# Altium schematic symbol library TMDX654GPEVM.SCHLIB: 339 symbols (part 2 of 6)
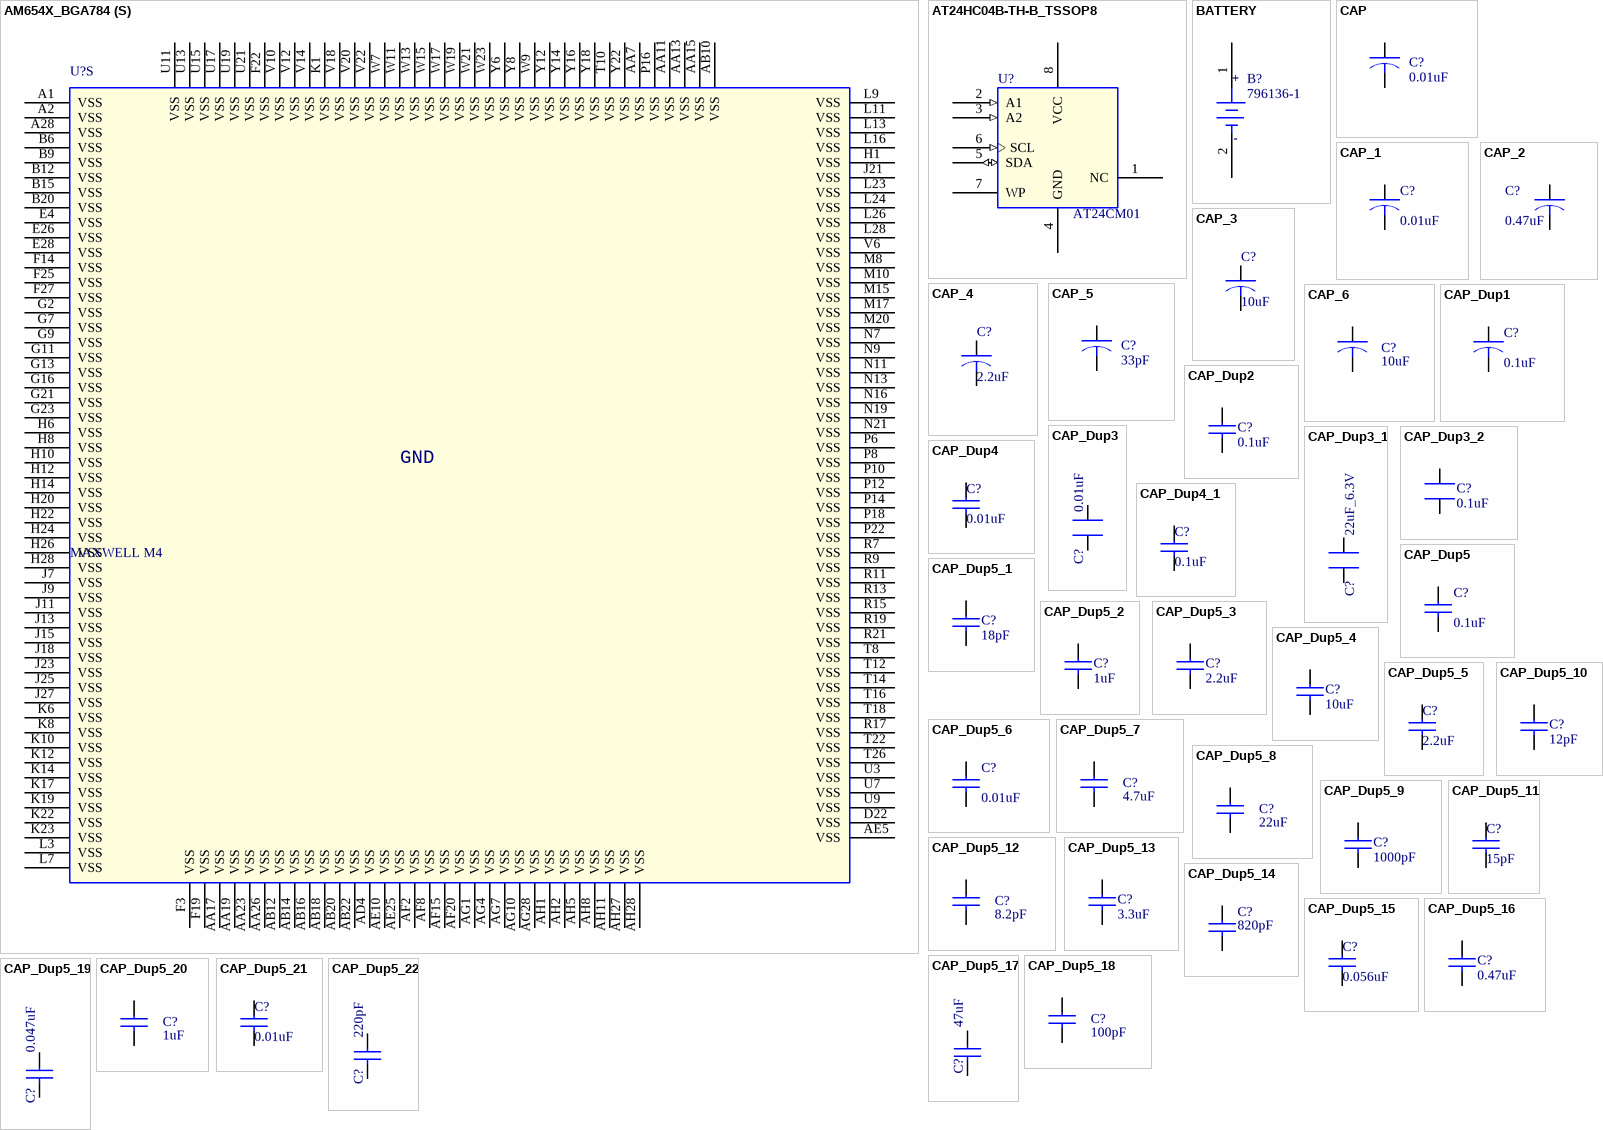
[diagram p21: symbols AM654X_BGA784 to CAP_Dup5_22]

## CAP_Dup5_18
designator C?, comment 100pF
CAP CERAMIC 100pF 50V 10% X7R 0402; Part_type: CAPACITORS\CERAMIC; Mfr_part_number: CC0402KRX7R9BB101; Mfr_name: YAGEO; Mistral Part No: 120014030006-R; PCB Footprint: CAP0402; Custom_Duty: 15%; Customs_HS_Code: 85322990; Wattage: NA; Project: DMP; Chkd/date: JAGADISH/110314; Crtd /date: SARANYA/110314; Datasheet: Y:\MIS_DATABASE\DATASHEETS\CAPACITORS\YACC0603.PDF; Temperature: -55°C+125°C; Weight: NA; Height: 0.55MM; Distributor_part_number: 311-1419-1-ND; Distributor_name: DIGIKEY; Package: 0402; Voltage: 50V; Tolerance: 10%; Library Ref: CAP
footprint CAP0402
pins: 1, 2

## CAP_Dup5_19
designator C?, comment 0.047uF
CAP CERAMIC 0.047uF 50V 10% X7R 0402; Part_type: CAPACITORS\CERAMIC; Mfr_part_number: GRM155R71H473KE14J; Mfr_name: MURATA; Mistral Part No: 120018010011-R; MECHANICAL 3D STEP FILE: CAP0402_0-75; Custom_Duty: 15%; Customs_HS_Code: 85322990; Wattage: NA; Project: TI_MAXIE_CPB; Chkd/date: MANIRAJA/240118; Crtd /date: MANIRAJA/240118; Datasheet: Y:\MIS_DATABASE\DATASHEETS\CAPACITORS\GRM155R71H473KE14.PDF; Temperature: -55°C+125°C; Weight: 6mg; Height: 0.55MM; Distributor_part_number: GRM155R71H473KE14J-ND; Distributor_name: DIGIKEY; Package: 0402; Voltage: 50V; Tolerance: 10%; PCB Footprint: CAP0402_0-75; Library Ref: CAP
footprint CAP0402_0-75
pins: 1, 2

## CAP_Dup5_20
designator C?, comment 1uF
CAP CERAMIC 1uF 25V 10% X5R 0603; Mistral Part No: 120010080040-R; Mfr_name: AVX CORPORATION; Mfr_part_number: 06033D105KAT2A; Part_type: CAPACITORS\CERAMIC; MECHANICAL 3D STEP FILE: CAP0603_1; Project: TI_MAXIE_CPB; Wattage: NA; Customs_HS_Code: 85322990; Custom_Duty: 15%; PCB Footprint: CAP0603_1; Tolerance: 10%; Voltage: 25V; Package: 0603; Distributor_name: DIGIKEY; Distributor_part_number: 478-5142-1-ND; Height: 0.94MM; Weight: 2mg; Temperature: -55°C+85°C; Datasheet: Y:\MIS_DATABASE\DATASHEETS\CAPACITORS\AVX_MLC.PDF; Crtd /date: MANIRAJA/230118; Chkd/date: MANIRAJA/230118; Library Ref: CAP
footprint CAP0603_1
pins: 1, 2

## CAP_Dup5_21
designator C?, comment 0.01uF
CAP CERAMIC 0.01uF 10V 10% X7R 0402; Mistral Part No: 120009030017-R; Mfr_name: AVX CORPORATION; Mfr_part_number: 0402ZC103KAT2A; Part_type: CAPACITORS\CERAMIC; PCB Footprint: CAP0402_0-75; Project: ADR; Wattage: NA; Customs_HS_Code: 85322990; Custom_Duty: 15%; Tolerance: 10%; Voltage: 10V; Package: 0402; Distributor_name: DIGIKEY; Distributor_part_number: 478-7890-1-ND; Height: 0.56MM; Weight: 0.65mg; Temperature: -55°C+125°C; Datasheet: Y:\MIS_DATABASE\DATASHEETS\CAPACITORS\AVX_MLC.PDF; Crtd /date: MAZHAR/201005; Chkd/date: VASANTHA/061216; MECHANICAL 3D STEP FILE: CAP0402_0-75; Library Ref: CAP
footprint CAP0402_0-75
pins: 1, 2

## CAP_Dup5_22
designator C?, comment 220pF
CAP CERAMIC 220pF 25V 5% C0G 0402; Mistral Part No: 120015120016-R; Mfr_name: MURATA; Mfr_part_number: GRM1555C1E221JA01D; Part_type: CAPACITORS\CERAMIC; PCB Footprint: CAP0402; Project: DLRL_NBSDR; Wattage: NA; Customs_HS_Code: 85322990; Custom_Duty: 15%; Tolerance: 5%; Voltage: 25V; Package: 0402; Distributor_name: DIGIKEY; Distributor_part_number: 490-8174-1-ND; Height: 0.55MM; Weight: NA; Temperature: -55°C+125°C; Datasheet: Y:\MIS_DATABASE\DATASHEETS\CAPACITORS\GRM188SERIES.PDF; Crtd /date: VASANTHA/211215; Chkd/date: VASANTHA/211215; Library Ref: CAP
footprint CAP0402
pins: 1, 2

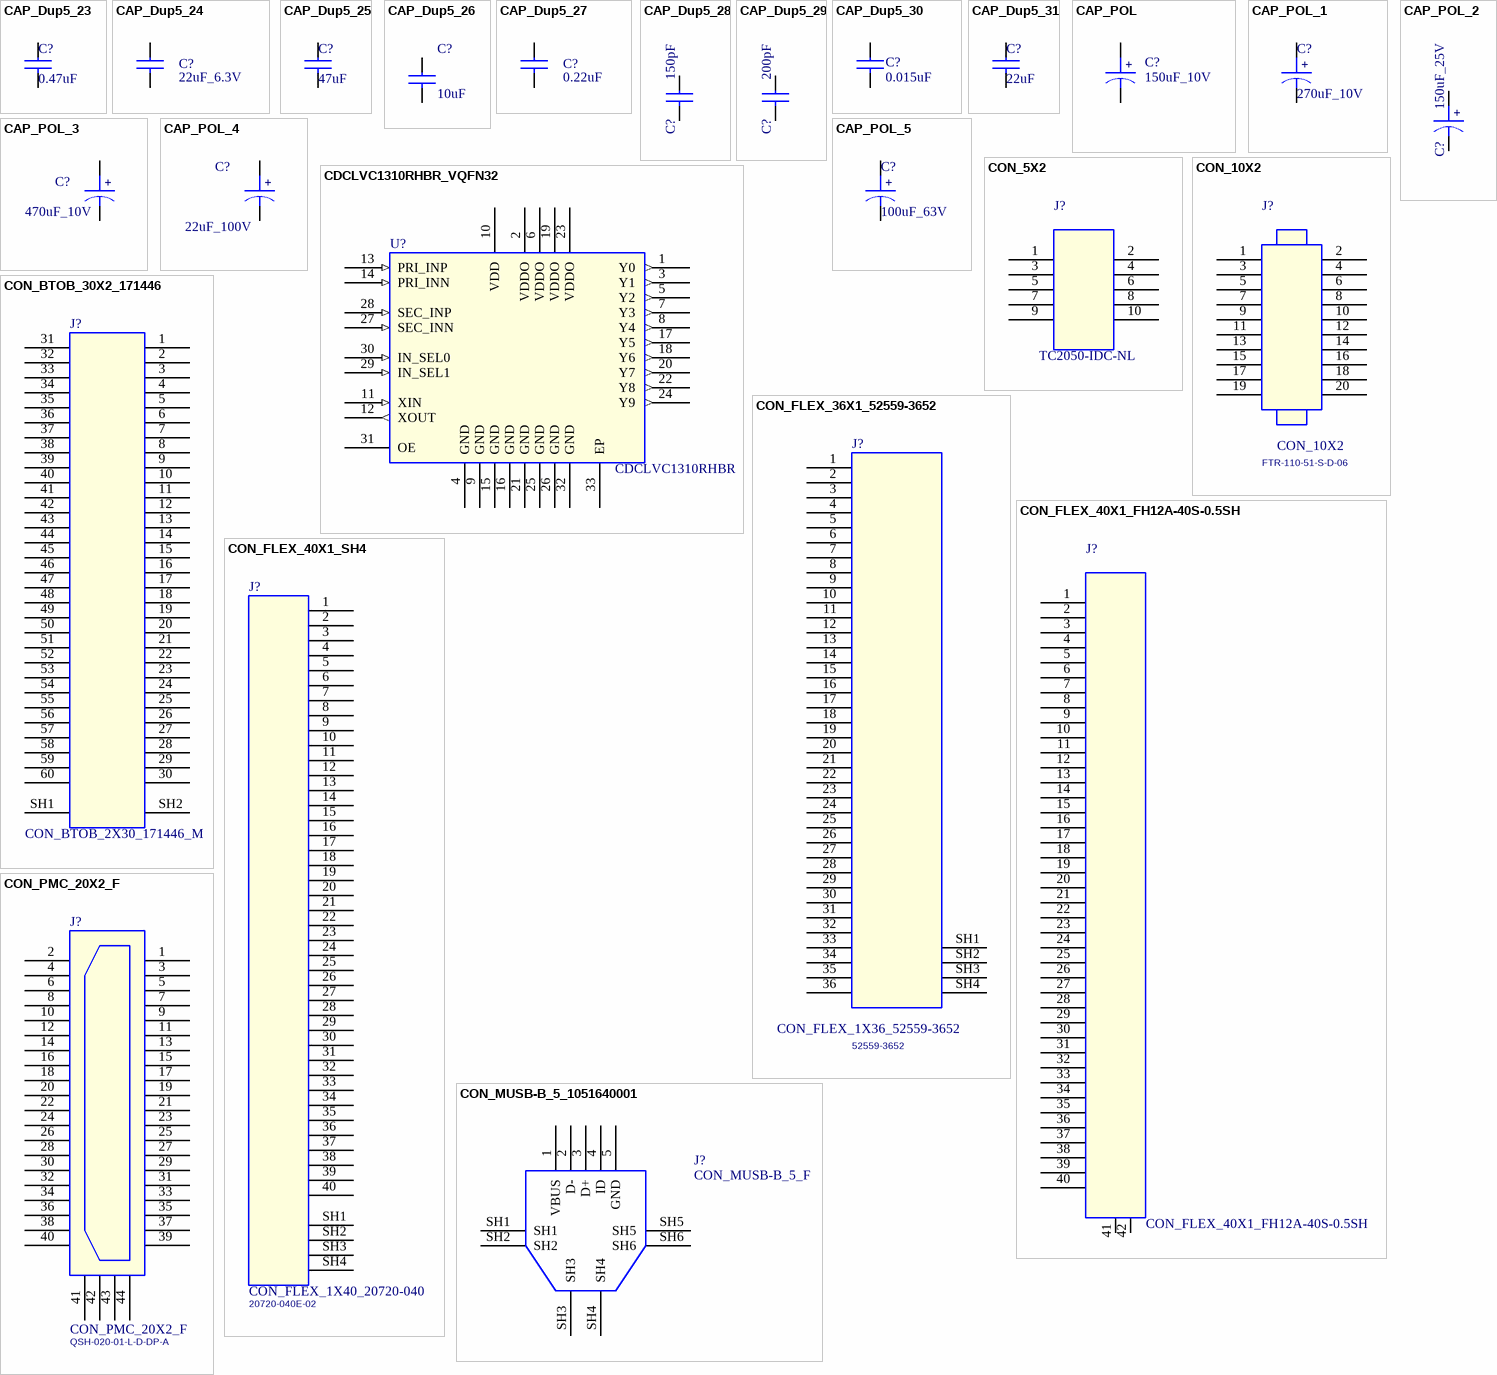
[diagram p5: symbols CAP_Dup5_23 to CON_PMC_20X2_F]

## CAP_Dup5_23
designator C?, comment 0.47uF
CAP CERAMIC 0.47uF 25V 10% X7R 0603; Mistral Part No: 120009030111-R; Mfr_name: YAGEO AMERICA; Mfr_part_number: CC0603KRX7R8BB474; Part_type: CAPACITORS\CERAMIC; Project: TI_MAXIE_CPB; Wattage: NA; Customs_HS_Code: 85322990; Custom_Duty: 15%; MECHANICAL 3D STEP FILE: CAP0603_1; Tolerance: 10%; Voltage: 25V; Package: 0603; Distributor_name: DIGIKEY; Distributor_part_number: 311-1805-1-ND; Height: 0.87MM; Weight: 2mg; Temperature: -55°C+125°C; Datasheet: Y:\MIS_DATABASE\DATASHEETS\CAPACITORS\YACC0603.PDF; Crtd /date: MANIRAJA/240118; Chkd/date: MANIRAJA/240118; PCB Footprint: CAP0603_1; Library Ref: CAP
footprint CAP0603_1
pins: 1, 2

## CAP_Dup5_24
designator C?, comment 22uF_6.3V
CAP CERAMIC 22uF 6.3V 20% X5R 0603; Mistral Part No: 120015090007-R; Mfr_name: MURATA; Mfr_part_number: GRM188R60J226MEA0; Part_type: CAPACITORS\CERAMIC; Alternate_mfr_name_A: YAGEO AMERICA; Alternate_mfr_part_number_A: CC0603MRX5R5BB226; Project: OCTBTS_3000; Wattage: NA; Customs_HS_Code: 85322990; Custom_Duty: 15%; PCB Footprint: CAP0603; Tolerance: 20%; Voltage: 6.3V; Package: 0603; Distributor_name: DIGIKEY; Distributor_part_number: 490-7611-2-ND; Height: 1.00MM; Weight: NA; Temperature: -55°C+85°C; Datasheet: Y:\MIS_DATABASE\DATASHEETS\CAPACITORS\GRM188SERIES.PDF; Crtd /date: JEBRAN/090915; Chkd/date: JEBRAN/090915; Library Ref: CAP; Distributor_name_A: DIGIKEY; Distributor_part_number_A: 311-1815-1-ND
footprint CAP0603
pins: 1, 2

## CAP_Dup5_25
designator C?, comment 47uF
CAP CERAMIC 47uF 6.3V 20% X5R 0603; Mistral Part No: 120016110001-R; Mfr_name: MURATA; Mfr_part_number: GRM188R60J476ME15D; Part_type: CAPACITORS\CERAMIC; Project: DLRL_3U_ESM_VPX; Wattage: NA; Customs_HS_Code: 85322990; Custom_Duty: 15%; MECHANICAL 3D STEP FILE: CAP0603_1; Tolerance: 20%; Voltage: 6.3V; Package: 0603; Distributor_name: DIGIKEY; Distributor_part_number: 490-13247-1-ND; Height: 0.90MM; Weight: 9.10mg; Temperature: -55°C+85°C; Datasheet: Y:\MIS_DATABASE\DATASHEETS\CAPACITORS\GRM188SERIES.PDF; Crtd /date: MANIRAJA/211116; Chkd/date: VASANTHA/211116; PCB Footprint: CAP0603_1; Library Ref: CAP
footprint CAP0603_1
pins: 1, 2

## CAP_Dup5_26
designator C?, comment 10uF
CAP CERAMIC 10uF 16V 10% X7R 1206; Mistral Part No: 120009090010-R; Mfr_name: KEMET; Mfr_part_number: C1206C106K4RACTU; Part_type: CAPACITORS\CERAMIC; PCB Footprint: CAP1206_2; Project: ADE POWER SUPPLY; Wattage: NA; Customs_HS_Code: 85322990; Custom_Duty: 15%; Tolerance: 10%; Voltage: 16V; Package: 1206; Distributor_name: DIGIKEY; Distributor_part_number: 399-3525-1-ND; Height: 1.80MM; Weight: 16.2mg; Temperature: -55°C+125°C; Datasheet: Y:\MIS_DATABASE\DATASHEETS\CAPACITORS\KEMET-C08_X.PDF; Crtd /date: MAZHAR/120909; Chkd/date: VASANTHA/291216; MECHANICAL 3D STEP FILE: CAP1206_2; Library Ref: CAP
footprint CAP1206_2
pins: 1, 2

## CAP_Dup5_27
designator C?, comment 0.22uF
CAP CERAMIC 0.22uF 10V 10% X5R 0402; Mistral Part No: 120009030090-R; Mfr_name: MURATA; Mfr_part_number: GRM155R61A224KE19D; Part_type: CAPACITORS\CERAMIC; Project: SMART VIEW_NVR; Wattage: NA; Customs_HS_Code: 85322990; Custom_Duty: 15%; MECHANICAL 3D STEP FILE: CAP0402_0-75; Library Ref: CAP; Tolerance: 10%; Voltage: 10V; Package: 0402; Distributor_name: DIGIKEY; Distributor_part_number: 490-3910-1-ND; Height: 0.55MM; Weight: 6mg; Temperature: -55°C+85°C; Datasheet: Y:\MIS_DATABASE\DATASHEETS\CAPACITORS\GRM188SERIES.PDF; Crtd /date: MAZHAR/170907; Chkd/date: VASANTHA/291216; PCB Footprint: CAP0402_0-75
footprint CAP0402_0-75
pins: 1, 2

## CAP_Dup5_28
designator C?, comment 150pF
CAP CERAMIC 150pF 50V 10% X7R 0402; Mistral Part No: 120018010022-R; Mfr_name: WURTH ELECTRONICS; Mfr_part_number: 885012205056; Part_type: CAPACITORS\CERAMIC; PCB Footprint: CAP0402_0-75; Project: TI_MAXIE_CPB; Wattage: NA; Customs_HS_Code: 85322990; Custom_Duty: 15%; Library Ref: CAP; Tolerance: 10%; Voltage: 50V; Package: 0402; Distributor_name: DIGIKEY; Distributor_part_number: 732-7551-1-ND; Height: 0.55MM; Weight: 0.65mg; Temperature: -55°C+125°C; Datasheet: Y:\MIS_DATABASE\DATASHEETS\CAPACITORS\'885012205056.PDF; Crtd /date: MANIRAJA/240118; Chkd/date: MANIRAJA/240118; MECHANICAL 3D STEP FILE: CAP0402_0-75
footprint CAP0402_0-75
pins: 1, 2

## CAP_Dup5_29
designator C?, comment 200pF
CAP CERAMIC 200pF 50V 5% C0G 0402; Part_type: CAPACITORS\CERAMIC; Mfr_part_number: GRM1555C1H201JA01D; Mfr_name: MURATA; Mistral Part No: 120009090005-R; MECHANICAL 3D STEP FILE: CAP0402_0-75; Custom_Duty: 15%; Customs_HS_Code: 85322990; Wattage: NA; Project: GOLDEN-I; Library Ref: CAP; Chkd/date: MANIRAJA/130617; Crtd /date: MAZHAR/090909; Datasheet: Y:\MIS_DATABASE\DATASHEETS\CAPACITORS\MURATA_CMCC.PDF; Temperature: -55°C+125°C; Weight: 6mg; Height: 0.55MM; Distributor_part_number: 490-3232-1-ND; Distributor_name: DIGIKEY; Package: 0402; Voltage: 50V; Tolerance: 5%; PCB Footprint: CAP0402_0-75
footprint CAP0402_0-75
pins: 1, 2

## CAP_Dup5_30
designator C?, comment 0.015uF
CAP CERAMIC 0.015uF 16V 10% X7R 0402; Mistral Part No: 120015120015-R; Mfr_name: MURATA; Mfr_part_number: GRM155R71C153KA01J; Part_type: CAPACITORS\CERAMIC; Alternate_mfr_part_number_A: GRM155R71C153KA01D; Project: DLRL_NBSDR; Wattage: NA; Customs_HS_Code: 85322990; Custom_Duty: 15%; PCB Footprint: CAP0402; Library Ref: CAP; Tolerance: 10%; Voltage: 16V; Package: 0402; Distributor_name: DIGIKEY; Distributor_part_number: 490-6329-1-ND; Alternate_mfr_name_A: MURATA; Distributor_name_A: DIGIKEY; Distributor_part_number_A: 490-1314-1-ND; Height: 0.55MM; Weight: NA; Temperature: -55°C+125°C; Datasheet: Y:\MIS_DATABASE\DATASHEETS\CAPACITORS\GRM188SERIES.PDF; Crtd /date: VASANTHA/211215; Chkd/date: VASANTHA/211215
footprint CAP0402
pins: 1, 2

## CAP_Dup5_31
designator C?, comment 22uF
CAP CERAMIC 22uF 50V 20% X7R 7563; Part_type: CAPACITORS\CERAMIC; Mfr_part_number: KTS500B226M76N0T00; Mfr_name: NIPPON CHEMICON; Mistral Part No: 120017100007-R; MECHANICAL 3D STEP FILE: CAP7563_4; Custom_Duty: 15%; Customs_HS_Code: 85322990; Wattage: NA; Project: TI_MAXIE_CPB; Library Ref: CAP; Chkd/date: MANIRAJA/121017; Crtd /date: MANIRAJA/121017; Datasheet: Y:\MIS_DATABASE\DATASHEETS\CAPACITORS\NTS-NTF-SER.PDF; Temperature: -55°C+125°C; Weight: NA; Height: 4.00MM; Distributor_part_number: 565-4700-1-ND; Distributor_name: DIGIKEY; Package: 7563; Voltage: 50V; Tolerance: 20%; PCB Footprint: CAP7563_4
footprint CAP7563_4
pins: 1, 2

## CAP_POL
designator C?, comment 150uF_10V
CAP TANTALUM 150uF 10V 10% ESR 0.9E D7373; Part_type: CAPACITORS\TANTALUM; Mfr_part_number: TAJD157K010TNJV; Mfr_name: AVX CORPORATION; Mistral Part No: 120018010025-R; MECHANICAL 3D STEP FILE: CAPT7343D_3-25; Custom_Duty: 15%; Customs_HS_Code: 85322990; Wattage: NA; Project: TI_MAXIE_CPB; Chkd/date: MANIRAJA/240118; Crtd /date: MANIRAJA/240118; Datasheet: Y:\MIS_DATABASE\DATASHEETS\CAPACITORS\TAJD156.PDF; Temperature: -55°C+125°C; Weight: NA; Height: 3.10MM; Distributor_part_number: 478-11241-1-ND; Distributor_name: DIGIKEY; Package: D7373; Voltage: 10V; Tolerance: 10%; PCB Footprint: CAPT7343D_3-25; Library Ref: CAP_POL
footprint CAPT7343D_3-25
pins: 1, 2
text: +

## CAP_POL_1
designator C?, comment 270uF_10V
CAP POLMER 270uF 10V 20% SMD; Mistral Part No: 120018010024-R; Mfr_name: WURTH ELECTRONICS; Mfr_part_number: 875105245014; Part_type: CAPACITORS\POLYPROPYLENE; PCB Footprint: CAP_87510524_270X270_SMD_7-7; Project: TI_MAXIE_CPB; Wattage: NA; Customs_HS_Code: 85322990; Custom_Duty: 15%; Tolerance: 20%; Voltage: 10V; Package: SMD; Distributor_name: DIGIKEY; Distributor_part_number: 732-6414-1-ND; Height: 7.7MM; Weight: NA; Temperature: -55°C+105°C; Datasheet: Y:\MIS_DATABASE\DATASHEETS\CAPACITORS\875105245014.PDF; Crtd /date: MANIRAJA/240118; Chkd/date: MANIRAJA/240118; MECHANICAL 3D STEP FILE: CAP_87510524_270X270_SMD_7-7; Library Ref: CAP_POL
footprint CAP_87510524_270X270_SMD_7-7
pins: 1, 2
text: +

## CAP_POL_2
designator C?, comment 150uF_25V
CAP ELECTROLYTIC 150uF 25V 20% CASE_8383; Mistral Part No: 120018010023-R; Mfr_name: NICHICON; Mfr_part_number: UWT1E151MNL1GS; Part_type: CAPACITORS\ELECTROLYTIC; PCB Footprint: CAPAE_CASE8383_11; Project: TI_MAXIE_CPB; Customs_HS_Code: 85322990; Custom_Duty: 15%; Wattage: NA; Tolerance: 20%; Voltage: 25V; Package: CASE_8383; Distributor_name: DIGIKEY; Distributor_part_number: 493-2191-1-ND; Height: 10.80MM; Datasheet: Y:\MIS_DATABASE\DATASHEETS\CAPACITORS\UWT-SER.PDF; Crtd /date: MANIRAJA/240118; Chkd/date: MANIRAJA/240118; Weight: NA; Temperature: -55°C+105°C; MECHANICAL 3D STEP FILE: CAPAE_CASE8383_11; Library Ref: CAP_POL
footprint CAPAE_CASE8383_11
pins: 1, 2
text: +

## CAP_POL_3
designator C?, comment 470uF_10V
CAP ELECTROLYTIC 470uF 10V 20% D8CASE_6666; Part_type: CAPACITORS\ELECTROLYTIC; Mfr_part_number: EEE-FTA471XAP; Mfr_name: PANASONIC; Mistral Part No: 120017100008-R; PCB Footprint: CAPAE_D8CASE_8; Custom_Duty: 15%; Customs_HS_Code: 85322990; Wattage: NA; Project: TI_MAXIE_CPB; MECHANICAL 3D STEP FILE: CAPAE_D8CASE_8; Chkd/date: MANIRAJA/171017; Crtd /date: MANIRAJA/171017; Datasheet: Y:\MIS_DATABASE\DATASHEETS\CAPACITORS\FTV-SER.PDF; Temperature: -55°C+105°C; Weight: NA; Height: 8.00MM; Distributor_part_number: P15094CT-ND; Distributor_name: DIGIKEY; Package: D8CASE_6666; Voltage: 10V; Tolerance: 20%; Library Ref: CAP_POL
footprint CAPAE_D8CASE_8
pins: 1, 2
text: +

## CAP_POL_4
designator C?, comment 22uF_100V
CAP ELECTROLYTIC 22uF 100V 20% GCASE_103103; Part_type: CAPACITORS\ELECTROLYTIC; Mfr_part_number: EEE-HA2A220P; Mfr_name: PANASONIC-ECG; Mistral Part No: 120011120008-R; Custom_Duty: 15%; Customs_HS_Code: 85322990; Wattage: NA; Project: NA10NG; PCB Footprint: CAPAE_GCASE; Library Ref: CAP_POL; Chkd/date: USMAN/141211; Crtd /date: CHAITHANYA/131211; Datasheet: Y:\MIS_DATABASE\DATASHEETS\CAPACITORS\EEEHA-V-SERIES.PDF; Temperature: -40°C+105°C; Weight: NA; Height: 10.50MM; Distributor_part_number: PCE4250CT-ND; Distributor_name: DIGIKEY; Package: GCASE_103103; Voltage: 100V; Tolerance: 20%
footprint CAPAE_GCASE
pins: 1, 2
text: +

## CAP_POL_5
designator C?, comment 100uF_63V
CAP ELECTROLYTIC 100uF 63V 20% CASE_103103; Mistral Part No: 120018010018-R; Mfr_name: NICHICON; Mfr_part_number: UUX1J101MNL1GS; Part_type: CAPACITORS\ELECTROLYTIC; PCB Footprint: CAPAE_CASE103103_11; Project: TI_MAXIE_CPB; Wattage: NA; Customs_HS_Code: 85322990; Custom_Duty: 15%; Library Ref: CAP_POL; Tolerance: 20%; Voltage: 63V; Package: CASE_103103; Distributor_name: DIGIKEY; Distributor_part_number: 493-7453-1-ND; Height: 10.80MM; Weight: 1.21g; Temperature: -55°C+105°C; Datasheet: Y:\MIS_DATABASE\DATASHEETS\CAPACITORS\UUX-SER.PDF; Crtd /date: MANIRAJA/120218; Chkd/date: MANIRAJA/120218; MECHANICAL 3D STEP FILE: CAPAE_CASE103103_11
footprint CAPAE_CASE103103_11
pins: 1, 2
text: +

## CDCLVC1310RHBR_VQFN32
designator U?, comment CDCLVC1310RHBR
IC LOW JITTER,LOW POWER CLK BUFFER LEVEL TRANSLATOR VQFN32; Part_type: ICS\INTERFACE\LEVEL TRANSLATOR; Mfr_name: TEXAS INSTRUMENTS; Mistral Part No: 141017100003-R; PCB Footprint: QFN32_19-68_200X200_1; Custom_Duty: 15%; Customs_HS_Code: 85423100; Wattage: NA; Project: TI_MAXIE_CPB; Library Ref: CDCLVC1310RHBR_VQFN32; MECHANICAL 3D STEP FILE: QFN32_19-68_200X200_1; Chkd/date: MANIRAJA/061017; Crtd /date: MANIRAJA/061017; Datasheet: Y:\MIS_DATABASE\DATASHEETS\ICS\INTERFACE\CDCLVC1310RHBR.PDF; Temperature: -40°C+85°C; Weight: 72.2mg; Height: 1.00MM; Distributor_part_number: 296-30105-1-ND; Distributor_name: DIGIKEY; Package: VQFN32; Voltage: NA; Tolerance: NA; Mfr_part_number: CDCLVC1310RHBR
footprint QFN32_19-68_200X200_1
pins: 1 Y0 (out), 2 VDDO (power), 3 Y1 (out), 4 GND (power), 5 Y2 (out), 6 VDDO (power), 7 Y3 (out), 8 Y4 (out), 9 GND (power), 10 VDD (power), 11 XIN (in), 12 XOUT (out), 13 PRI_INP (in), 14 PRI_INN (in), 15 GND (power), 16 GND (power), 17 Y5 (out), 18 Y6 (out), 19 VDDO (power), 20 Y7 (out), 21 GND (power), 22 Y8 (out), 23 VDDO (power), 24 Y9 (out), 25 GND (power), 26 GND (power), 27 SEC_INN (in), 28 SEC_INP (in), 29 IN_SEL1 (in), 30 IN_SEL0 (in), 31 OE, 32 GND (power), 33 EP (power)

## CON_5X2
designator J?, comment TC2050-IDC-NL
ACCESSORIE CABLE TAG CONNECT IN CIRCUIT 10POS WITH IDC CONNECTOR; Part_type: CABLE\ACCESSORIES; Mistral Part No: 170015120001; Wattage: NA; Project: ADI_SMLT; PCB Footprint: CON_2X5_TC2050-IDC-430-NL_T; Chkd/date: VASANTHA/031215; Crtd /date: VASANTHA/031215; Datasheet: Y:\MIS_DATABASE\DATASHEETS\MISC\ACCESSORIES\TC2050-IDC-NL.PDF; Temperature: NA; Weight: NA; Height: NA; Distributor_part_number: NA; Distributor_name: NA; Package: NA; Voltage: NA; Tolerance: NA; Mfr_part_number: TC2050-IDC-NL; Mfr_name: TAG CONNECT; Library Ref: CON_5X2
footprint CON_2X5_TC2050-IDC-430-NL_T
pins: 1, 2, 3, 4, 5, 6, 7, 8, 9, 10

## CON_10X2
designator J?  Mfr_part_number: FTR-110-51-S-D-06
CON 10X2 1.27MM PITCH MALE SMD; Mistral Part No: 150011090001-R; Mfr_name: SAMTEC; Part_type: CONNECTOR\MISCELLANEOUS; Project: GEMYC; Tolerance: NA; Customs_HS_Code: 85369090; Custom_Duty: 24%; PCB Footprint: CON_10X2_FTR-110-51-S-D_P_S_S; Voltage: NA; Wattage: NA; Package: SMD; Distributor_name: DIGIKEY; Distributor_part_number: FTR-110-51-S-D-06-ND; Height: 7.37MM; Weight: NA; Temperature: -55°C+105°C; Datasheet: Y:\MIS_DATABASE\DATASHEETS\CONNECTORS\FTR-SERIES1.PDF; Crtd /date: CHAITHANYA/050811; Chkd/date: BAVISH/050911; Library Ref: CON_10X2
footprint CON_10X2_FTR-110-51-S-D_P_S_S
pins: 1, 2, 3, 4, 5, 6, 7, 8, 9, 10, 11, 12, 13, 14, 15, 16, 17, 18, 19, 20

## CON_BTOB_30X2_171446
designator J?, comment CON_BTOB_2X30_171446_M
CON BTOB 2X30 0.80MM PITCH MALE ST SMD; Part_type: CONNECTOR\BTOB; Mfr_part_number: 171446-1114; Mfr_name: MOLEX; Mistral Part No: 150017100005-R; MECHANICAL 3D STEP FILE: CON_BTOB2X30_171446_P_S_S_5-5; Custom_Duty: 24%; Customs_HS_Code: 85369090; Wattage: NA; Project: TI_MAXIE_CPB; Library Ref: CON_BTOB_30X2_171446; Chkd/date: MANIRAJA/051017; Crtd /date: MANIRAJA/051017; Datasheet: Y:\MIS_DATABASE\DATASHEETS\CONNECTORS\171446-SER.PDF; Temperature: -40°C+105°C; Weight: 526mg; Height: 5.50MM; Distributor_part_number: 1714461114-ND; Distributor_name: DIGIKEY; Package: SMD; Voltage: NA; Tolerance: NA; PCB Footprint: CON_BTOB2X30_171446_P_S_S_5-5
footprint CON_BTOB2X30_171446_P_S_S_5-5
pins: 1, 2, 3, 4, 5, 6, 7, 8, 9, 10, 11, 12, 13, 14, 15, 16, 17, 18, 19, 20, 21, 22, 23, 24, 25, 26, 27, 28, 29, 30, 31, 32, 33, 34, 35, 36, 37, 38, 39, 40, 41, 42, 43, 44, 45, 46, 47, 48, 49, 50, 51, 52, 53, 54, 55, 56, 57, 58, 59, 60, SH1, SH2

## CON_FLEX_36X1_52559-3652
designator J?, comment CON_FLEX_1X36_52559-3652  Mfr_part_number: 52559-3652
CON FPC 1X36 0.50MM PITCH ST SMD; Mistral Part No: 150017090006-R; Mfr_name: MOLEX; Part_type: CONNECTOR\FPC; Project: TI_SVB_MAXWELL_DUT; Tolerance: NA; Customs_HS_Code: 85369090; Custom_Duty: 24%; MECHANICAL 3D STEP FILE: CON_FLEX1X36_52559-36_S_S_S_5-3; Voltage: NA; Wattage: NA; Package: SMD; Distributor_name: DIGIKEY; Distributor_part_number: WM7988CT-ND; Height: 5.30MM; Weight: 429.23mg; Temperature: -40°C+85°C; Datasheet: Y:\MIS_DATABASE\DATASHEETS\CONNECTORS\52559.PDF; Crtd /date: MANIRAJA/060917; Chkd/date: MANIRAJA/060917; PCB Footprint: CON_FLEX1X36_52559-36_S_S_S_5-3; Library Ref: CON_FLEX_36X1_52559-3652
footprint CON_FLEX1X36_52559-36_S_S_S_5-3
pins: 1, 2, 3, 4, 5, 6, 7, 8, 9, 10, 11, 12, 13, 14, 15, 16, 17, 18, 19, 20, 21, 22, 23, 24, 25, 26, 27, 28, 29, 30, 31, 32, 33, 34, 35, 36, SH1, SH2, SH3, SH4

## CON_FLEX_40X1_FH12A-40S-0.5SH
designator J?
CON FPC 40X1 0.50MM PITCH RT TOP SMD; Part_type: CONNECTOR\FPC; Mfr_part_number: FH12A-40S-0.5SH(55); Mfr_name: HIROSE ELECTRIC EUROPE; Mistral Part No: 150009030176-R; Remarks: CON_FLEX40X1_FH12A_S_R_S_PMP take this footprint for PMP LCD BOARD/ROHS INFORMATION ADDED(BAVISH/270911)Mistral part# updated with -R.; Custom_Duty: 24%; Customs_HS_Code: 85369090; Project: PMP LCD BOARD; PCB Footprint: CON_FLEX40X1_FH12A_S_R_S; Library Ref: CON_FLEX_40X1_FH12A-40S-0.5SH; Chkd/date: SHREESHAIL/201106; Crtd /date: MAZHAR/171106; Datasheet: Y:\MIS_DATABASE\DATASHEETS\CONNECTORS\FH12SERIES.PDF; Height: 2.00MM; Distributor_part_number: HFK40CT-ND; Distributor_name: DIGIKEY; Package: SMD
footprint CON_FLEX40X1_FH12A_S_R_S
pins: 1, 2, 3, 4, 5, 6, 7, 8, 9, 10, 11, 12, 13, 14, 15, 16, 17, 18, 19, 20, 21, 22, 23, 24, 25, 26, 27, 28, 29, 30, 31, 32, 33, 34, 35, 36, 37, 38, 39, 40, 41, 42

## CON_FLEX_40X1_SH4
designator J?, comment CON_FLEX_1X40_20720-040  Mfr_part_number: 20720-040E-02
CON FPC 1X40 0.50MM PITCH RT SMD; Mistral Part No: 150017100021-R; Mfr_name: IPEX; Part_type: CONNECTOR\FPC; PCB Footprint: CON_FLEX1X40_20720-040_S_R_S_2; Project: TI_MAXIE_CPB; Tolerance: NA; Customs_HS_Code: 85369090; Custom_Duty: 24%; Library Ref: CON_FLEX_40X1_SH4; Voltage: NA; Wattage: NA; Package: SMD; Distributor_name: NA; Distributor_part_number: NA; Height: 2.00MM; Weight: NA; Temperature: -40°C+105°C; Datasheet: Y:\MIS_DATABASE\DATASHEETS\CONNECTORS\20720-0XX.PDF; Crtd /date: MANIRAJA/121017; Chkd/date: MANIRAJA/121017; MECHANICAL 3D STEP FILE: CON_FLEX1X40_20720-040_S_R_S_2
footprint CON_FLEX1X40_20720-040_S_R_S_2
pins: 1, 2, 3, 4, 5, 6, 7, 8, 9, 10, 11, 12, 13, 14, 15, 16, 17, 18, 19, 20, 21, 22, 23, 24, 25, 26, 27, 28, 29, 30, 31, 32, 33, 34, 35, 36, 37, 38, 39, 40, SH1, SH2, SH3, SH4

## CON_MUSB-B_5_1051640001
designator J?, comment CON_MUSB-B_5_F
CON MICRO USB-B TYPE 5POS FEMALE RT SMD; Mistral Part No: 150017080018-R; Mfr_name: MOLEX; Mfr_part_number: 1051640001; Part_type: CONNECTOR\USB; PCB Footprint: CON_MUSBB5_1051640001_S_R_S_2-5; Project: TI_MAXIE_CPB; Tolerance: NA; Customs_HS_Code: 85369090; Custom_Duty: 24%; Voltage: NA; Wattage: NA; Package: SMD; Distributor_name: DIGIKEY; Distributor_part_number: WM11263CT-ND; Height: 2.45MM; Weight: 234mg; Temperature: -35°C+85°C; Datasheet: Y:\MIS_DATABASE\DATASHEETS\CONNECTORS\1051640001.PDF; Crtd /date: MANIRAJA/230817; Chkd/date: MANIRAJA/230817; MECHANICAL 3D STEP FILE: CON_MUSBB5_1051640001_S_R_S_2-5; Library Ref: CON_MUSB-B_5_1051640001
footprint CON_MUSBB5_1051640001_S_R_S_2-5
pins: 1 VBUS, 2 D-, 3 D+, 4 ID, 5 GND (power), SH1, SH2, SH3, SH4, SH5, SH6

## CON_PMC_20X2_F
designator J?  Mfr_part_number: QSH-020-01-L-D-DP-A
CON PMC 20X2 0.50MM PITCH FEMALE ST SMD; Part_type: CONNECTOR\PMC; Mfr_name: SAMTEC; Mistral Part No: 150011110006-R; Custom_Duty: 24%; Customs_HS_Code: 85369090; Wattage: NA; Project: LLTR; PCB Footprint: CON_PMC20X2_QSH-D-DP_S_S_S; Chkd/date: USMAN/021214; Crtd /date: CHAITHANYA/031111; Datasheet: Y:\MIS_DATABASE\DATASHEETS\CONNECTORS\QSH-SERIES.PDF; Temperature: -55°C+125°C; Weight: NA; Height: 3.25MM; Distributor_part_number: QSH-020-01-L-D-DP-A-ND; Distributor_name: DIGIKEY; Package: SMD; Voltage: NA; Tolerance: NA; Library Ref: CON_PMC_20X2_F
footprint CON_PMC20X2_QSH-D-DP_S_S_S
pins: 1, 2, 3, 4, 5, 6, 7, 8, 9, 10, 11, 12, 13, 14, 15, 16, 17, 18, 19, 20, 21, 22, 23, 24, 25, 26, 27, 28, 29, 30, 31, 32, 33, 34, 35, 36, 37, 38, 39, 40, 41 GND1, 42 GND2, 43 GND3, 44 GND4

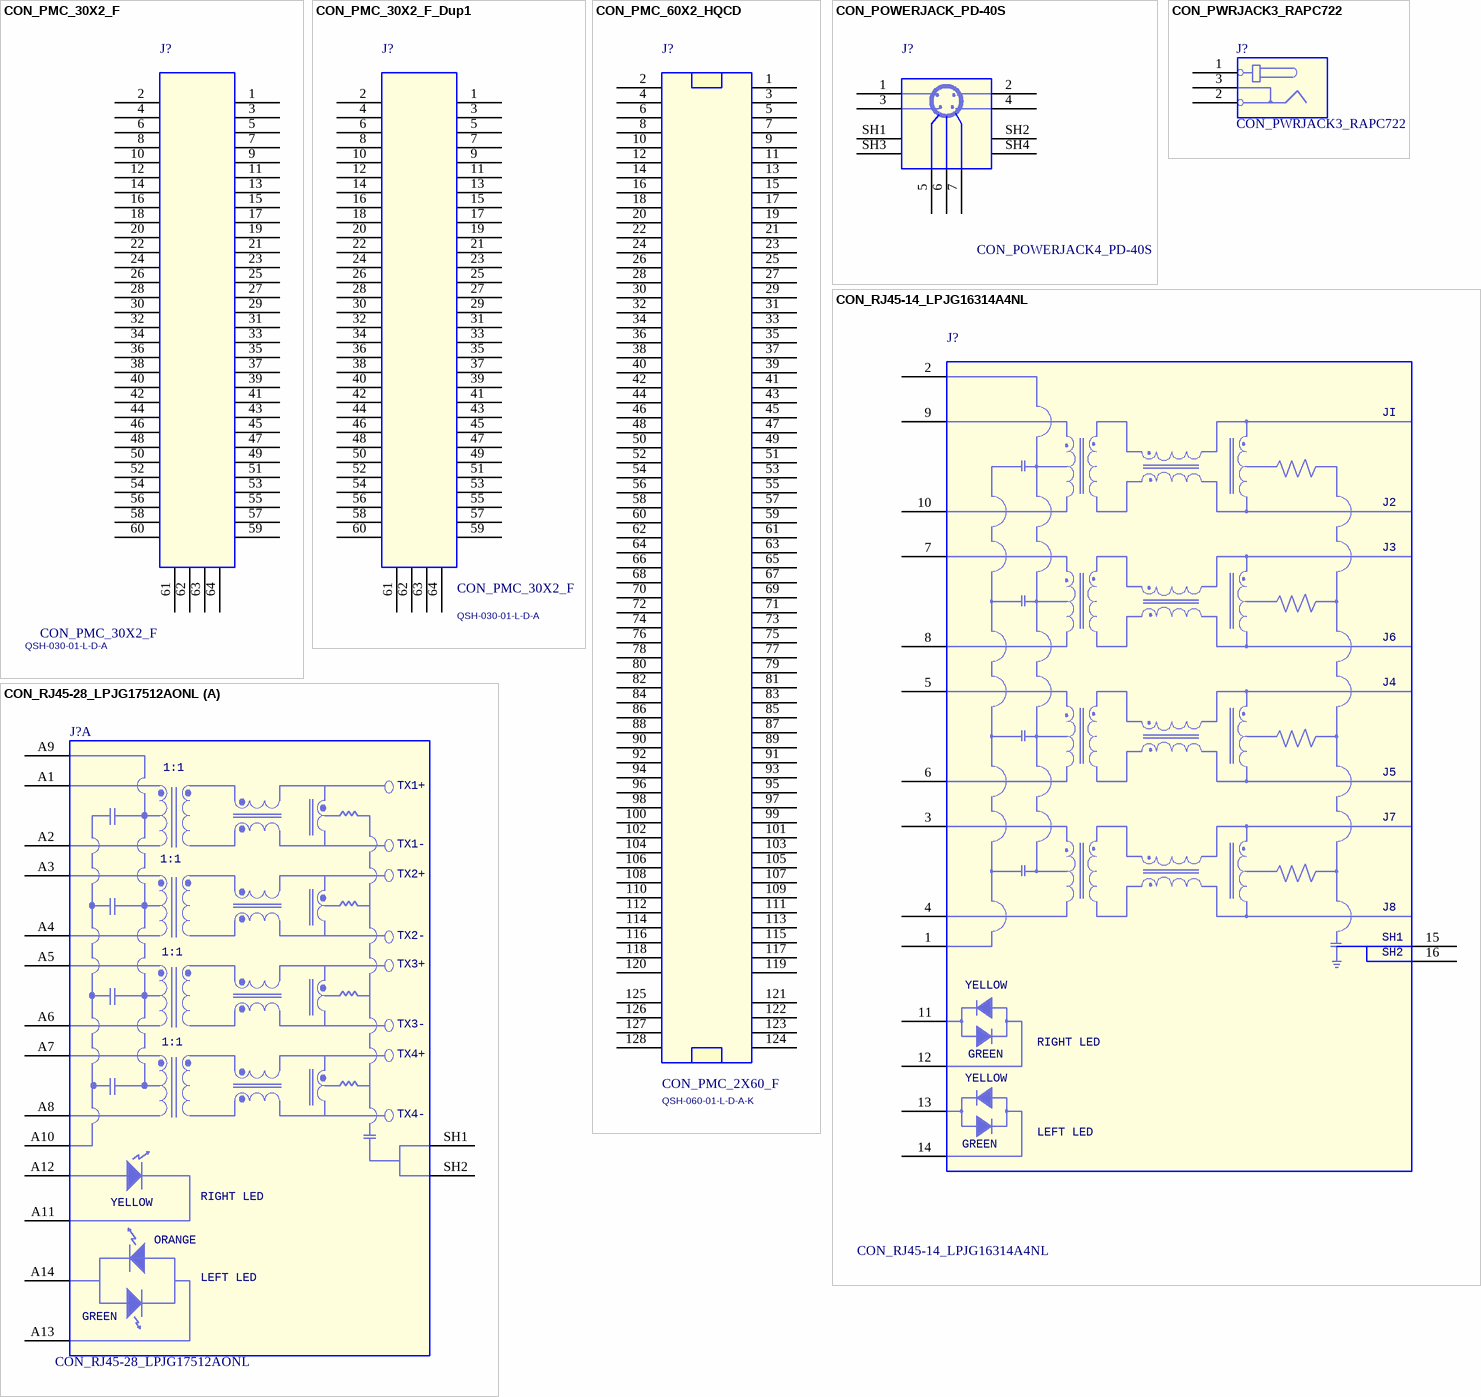
[diagram p6: symbols CON_PMC_30X2_F to CON_RJ45-28_LPJG17512AONL]

## CON_PMC_30X2_F
designator J?  Mfr_part_number: QSH-030-01-L-D-A
CON PMC 30X2 0.50MM PITCH FEMALE ST SMD; Mistral Part No: 150009030606; Mfr_name: SAMTEC; Part_type: CONNECTOR\PMC; Project: KHAN_HSST; Customs_HS_Code: 85369090; Custom_Duty: 24%; PCB Footprint: CON_PMC30X2_QSH-030-01-L_S_S_S; Library Ref: CON_PMC_30X2_F; Package: SMD; Height: 3.25MM; Datasheet: Y:\MIS_DATABASE\DATASHEETS\CONNECTORS\QSH.PDF; Crtd /date: USMAN/051108; Chkd/date: MAZHAR/180208
footprint CON_PMC30X2_QSH-030-01-L_S_S_S
pins: 1, 2, 3, 4, 5, 6, 7, 8, 9, 10, 11, 12, 13, 14, 15, 16, 17, 18, 19, 20, 21, 22, 23, 24, 25, 26, 27, 28, 29, 30, 31, 32, 33, 34, 35, 36, 37, 38, 39, 40, 41, 42, 43, 44, 45, 46, 47, 48, 49, 50, 51, 52, 53, 54, 55, 56, 57, 58, 59, 60, 61, 62, 63, 64

## CON_PMC_30X2_F_Dup1
designator J?, comment CON_PMC_30X2_F  Mfr_part_number: QSH-030-01-L-D-A
CON PMC 30X2 0.50MM PITCH FEMALE ST SMD; Mistral Part No: 150009030606; Mfr_name: SAMTEC; Part_type: CONNECTOR\PMC; PCB Footprint: CON_PMC30X2_QSH-030-01-L_S_S_S; Project: KHAN_HSST; Customs_HS_Code: 85369090; Custom_Duty: 24%; Library Ref: CON_PMC_30X2_F; Package: SMD; Height: 3.25MM; Datasheet: Y:\MIS_DATABASE\DATASHEETS\CONNECTORS\QSH.PDF; Crtd /date: USMAN/051108; Chkd/date: MAZHAR/180208
footprint CON_PMC30X2_QSH-030-01-L_S_S_S
pins: 1, 2, 3, 4, 5, 6, 7, 8, 9, 10, 11, 12, 13, 14, 15, 16, 17, 18, 19, 20, 21, 22, 23, 24, 25, 26, 27, 28, 29, 30, 31, 32, 33, 34, 35, 36, 37, 38, 39, 40, 41, 42, 43, 44, 45, 46, 47, 48, 49, 50, 51, 52, 53, 54, 55, 56, 57, 58, 59, 60, 61, 62, 63, 64

## CON_PMC_60X2_HQCD
designator J?, comment CON_PMC_2X60_F  Mfr_part_number: QSH-060-01-L-D-A-K
CON PMC 2X60 0.50MM PITCH FEMALE ST SMD; Mistral Part No: 150010060004-R; Mfr_name: SAMTEC; Part_type: CONNECTOR\PMC; PCB Footprint: CON_PMC60X2_HQCD-060_S_S_S_3-3; Project: CENTAURUS; Tolerance: NA; Customs_HS_Code: 85369090; Custom_Duty: 24%; Library Ref: CON_PMC_60X2_HQCD; Voltage: NA; Wattage: NA; Package: SMD; Distributor_name: DIGIKEY; Distributor_part_number: SAM10652-ND; Height: 3.25MM; Weight: NA; Temperature: -55°C+125°C; Datasheet: Y:\MIS_DATABASE\DATASHEETS\CONNECTORS\QSH.PDF; Crtd /date: MUDDU/020610; Chkd/date: MANIRAJA/230817; MECHANICAL 3D STEP FILE: CON_PMC60X2_HQCD-060_S_S_S_3-3
footprint CON_PMC60X2_HQCD-060_S_S_S_3-3
pins: 1, 2, 3, 4, 5, 6, 7, 8, 9, 10, 11, 12, 13, 14, 15, 16, 17, 18, 19, 20, 21, 22, 23, 24, 25, 26, 27, 28, 29, 30, 31, 32, 33, 34, 35, 36, 37, 38, 39, 40, 41, 42, 43, 44, 45, 46, 47, 48, 49, 50, 51, 52, 53, 54, 55, 56, 57, 58, 59, 60, 61, 62, 63, 64, 65, 66, 67, 68, 69, 70, 71, 72, 73, 74, 75, 76, 77, 78, 79, 80, 81, 82, 83, 84, 85, 86, 87, 88, 89, 90, 91, 92, 93, 94, 95, 96, 97, 98, 99, 100, 101, 102, 103, 104, 105, 106, 107, 108, 109, 110, 111, 112, 113, 114, 115, 116, 117, 118, 119, 120, 121, 122, 123, 124, 125, 126, 127, 128

## CON_POWERJACK_PD-40S
designator J?, comment CON_POWERJACK4_PD-40S
CON POWER JACK 4POS FEMALE RT TH; Mistral Part No: 150016060015-R; Mfr_name: CUI INC; Mfr_part_number: PD-40S; Part_type: CONNECTOR\JACK; Project: NTR_GPSDO BOX CARD; Tolerance: NA; Customs_HS_Code: 85369090; Custom_Duty: 24%; MECHANICAL 3D STEP FILE: CON_POWERJACK4_PD-40S_S_R_T_15; Library Ref: CON_POWERJACK_PD-40S; Voltage: NA; Wattage: NA; Package: THRU-HOLE; Distributor_name: DIGIKEY; Distributor_part_number: CP-7240-ND; Height: 15.00MM; Weight: NA; Temperature: NA; Datasheet: Y:\MIS_DATABASE\DATASHEETS\CONNECTORS\PD-40S.PDF; Crtd /date: VASANTHA/140616; Chkd/date: VASANTHA/140616; PCB Footprint: CON_POWERJACK4_PD-40S_S_R_T_15
footprint CON_POWERJACK4_PD-40S_S_R_T_15
pins: 1, 2, 3, 4, 5, 6, 7, SH1, SH2, SH3, SH4

## CON_PWRJACK3_RAPC722
designator J?
CON POWER JACK 3POS 5A 1.93MMPIN-DIA MALE RT TH; Part_type: CONNECTOR\JACK; Mfr_part_number: RAPC722X; Mfr_name: SWITCHCRAFT; Mistral Part No: 150011020010-R; Custom_Duty: 24%; Customs_HS_Code: 85369090; Wattage: NA; Project: KENNEL; PCB Footprint: CON_PWRJACK3_RAPC722_P_R_T; Library Ref: CON_PWRJACK3_RAPC722; Chkd/date: MAZHAR/220311; Crtd /date: BAVISH/230211; Datasheet: Y:\MIS_DATABASE\DATASHEETS\CONNECTORS\RAPC722.PDF; Temperature: NA; Weight: SOIC8; Height: 11.00MM; Distributor_part_number: SC1313-ND; Distributor_name: DIGIKEY; Package: THRU-HOLE; Voltage: NA; Tolerance: NA
footprint CON_PWRJACK3_RAPC722_P_R_T
pins: 1, 2, 3

## CON_RJ45-14_LPJG16314A4NL
designator J?
CON RJ-45 FEMALE 14POS RT TH; Part_type: CONNECTOR\JACK; Mfr_name: LINK-PP; Mistral Part No: 150014060029-R; MECHANICAL 3D STEP FILE: CON_RJ45-14_LPJG16314A4NL_S_R_T_13-6; Custom_Duty: 24%; Customs_HS_Code: 85369090; Wattage: NA; Project: AEGIS; Chkd/date: VASANTHA/150714; Crtd /date: BALACHANDAR/120614; Datasheet: Y:\MIS_DATABASE\DATASHEETS\CONNECTORS\LPJG16314A4NL.PDF; Temperature: -0°C+70°C; Weight: NA; Height: 13.60MM; Distributor_part_number: NA; Distributor_name: NA; Package: THRU-HOLE; Voltage: NA; Tolerance: NA; Mfr_part_number: LPJG16314A4NL; PCB Footprint: CON_RJ45-14_LPJG16314A4NL_S_R_T_13-6; Library Ref: CON_RJ45-14_LPJG16314A4NL; Footprint Ref: CON_RJ45-14_LPJG16314A4NL_S_R_T_13-6; Library Path: Y:\MIS_DATABASE\Library\ALTIUM_TOOL\SCHEMATICS_PARTS\MS_CONNECTOR_Library.schlib; Footprint Path: Y:\MIS_DATABASE\Library\ALTIUM_TOOL\PCB_FOOTPRINTS\Altium_Footprint_Lib.PcbLib
footprint CON_RJ45-14_LPJG16314A4NL_S_R_T_13-6
pins: 1 CH-GND, 2 VCC, 3 MX3+, 4 MX3-, 5 MX2+, 6 MX2-, 7 MX1+, 8 MX1-, 9 MX0+, 10 MX0-, 11, 12, 13, 14, 15 SH1, 16 SH2
text: JI; J2; J3; J6; J4; J5; J7; J8; YELLOW; RIGHT LED; GREEN; LEFT LED

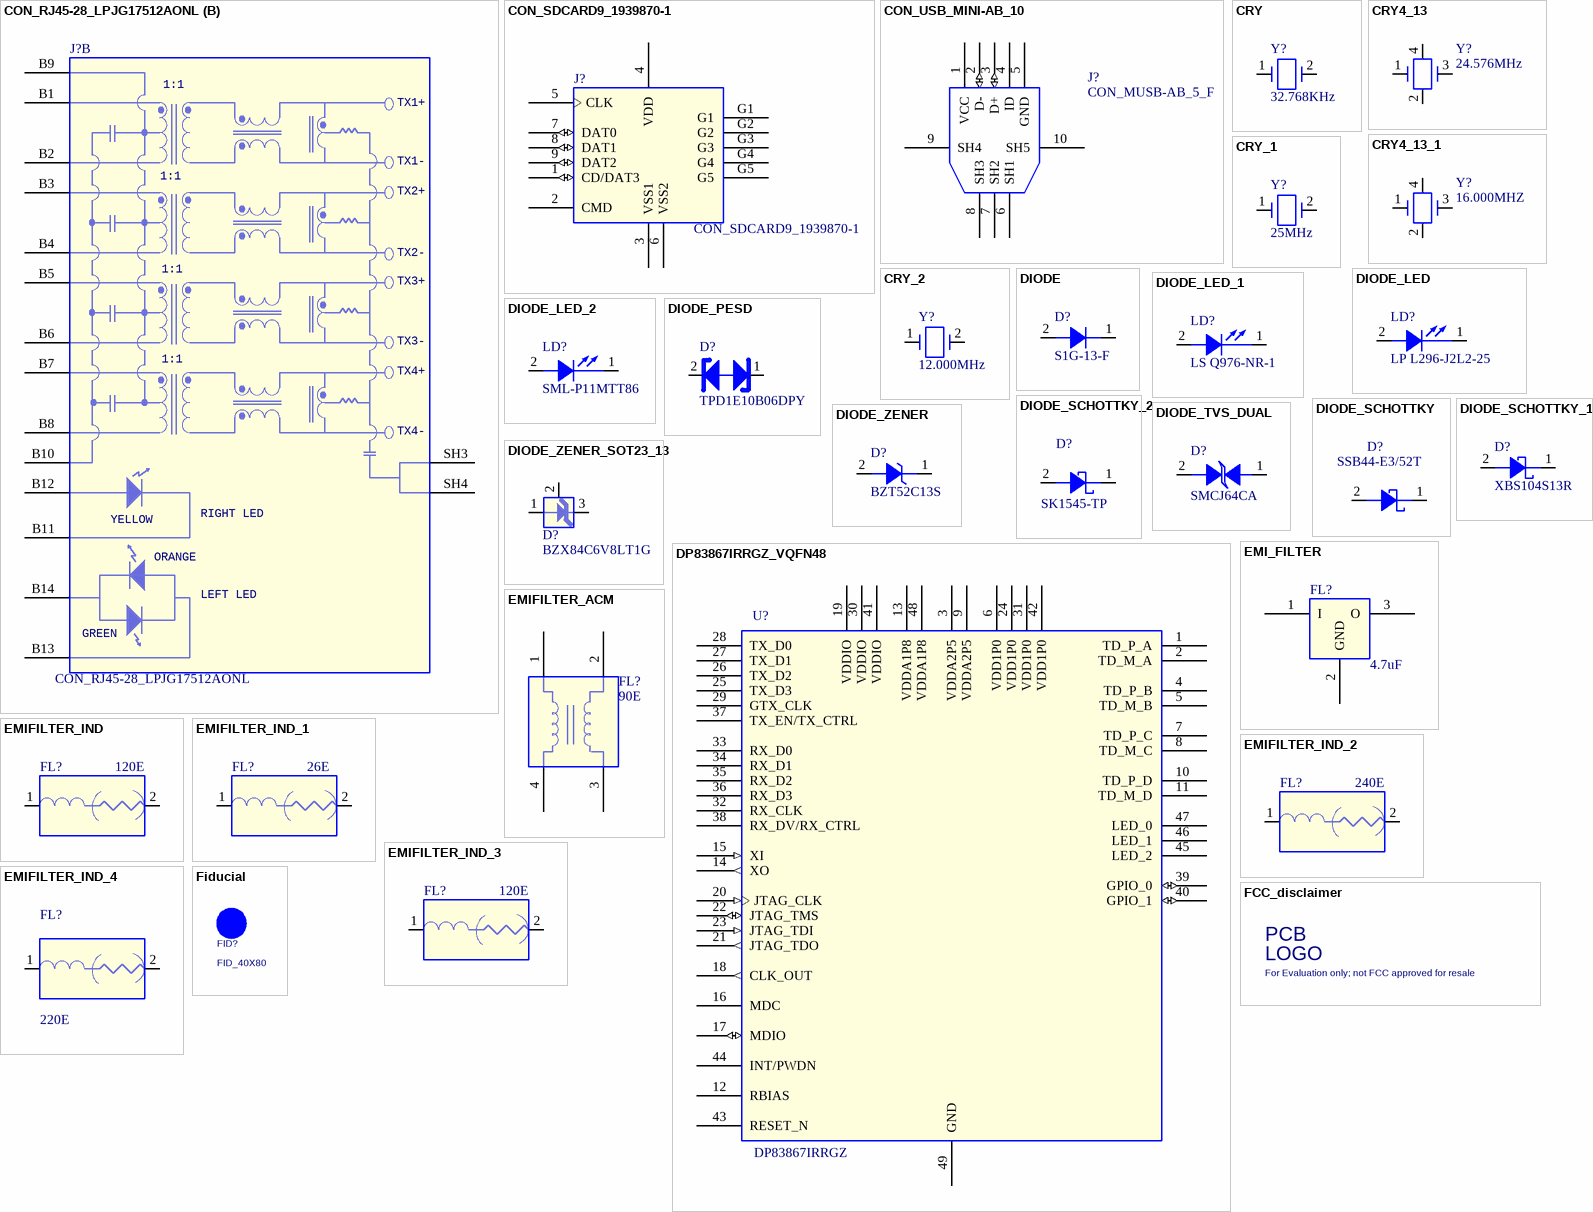
[diagram p7: symbols CON_RJ45-28_LPJG17512AONL to Fiducial]

## CON_RJ45-28_LPJG17512AONL
designator J?
CON JACK RJ45 28POS REGISTERED FEMALE RA TH; Part_type: CONNECTOR\JACK; Mfr_name: LINK-PP; Mistral Part No: 150017080001-R; PCB Footprint: CON_RJ45-28_LPJG17512_S_R_T_25-3; Custom_Duty: 24%; Customs_HS_Code: 85369090; Wattage: NA; Project: TI_SVB_DUT; Library Ref: CON_RJ45-28_LPJG17512AONL; MECHANICAL 3D STEP FILE: CON_RJ45-28_LPJG17512_S_R_T_25-3; Chkd/date: MANIRAJA/010817; Crtd /date: MANIRAJA/010817; Datasheet: Y:\MIS_DATABASE\DATASHEETS\CONNECTORS\LPJG17512AONL.PDF; Temperature: 0°C+70°C; Weight: NA; Height: 25.30MM; Distributor_part_number: NA; Distributor_name: NA; Package: THRU-HOLE; Voltage: NA; Tolerance: NA; Mfr_part_number: LPJG17512AONL
footprint CON_RJ45-28_LPJG17512_S_R_T_25-3
part A pins: A1 TD1+_1, A2 TD1-_1, A3 TD2+_1, A4 TD2-_1, A5 TD3+_1, A6 TD3-_1, A7 TD4+_1, A8 TD4-_1, A9 VCC (power), A10 GND (power), A11, A12, A13, A14, SH1, SH2
part B pins: B1 TD1+_2, B2 TD1-_2, B3 TD2+_2, B4 TD2-_2, B5 TD3+_2, B6 TD3-_2, B7 TD4+_2, B8 TD4-_2, B9 VCC (power), B10 GND (power), B11, B12, B13, B14, SH3, SH4
part A text: 1:1; TX1+; TX1-; TX2+; TX2-; TX3+; TX3-; TX4+; TX4-; RIGHT LED; YELLOW; ORANGE; LEFT LED; GREEN
part B text: 1:1; TX1+; TX1-; TX2+; TX2-; TX3+; TX3-; TX4+; TX4-; RIGHT LED; YELLOW; ORANGE; LEFT LED; GREEN

## CON_SDCARD9_1939870-1
designator J?
CON SD CARD PUSH-PUSH 9POS RT SMD; Mistral Part No: 150017100004-R; Mfr_name: TE CONNECTIVITY; Part_type: CONNECTOR\MEMORY CARD; Project: TI_MAXIE_CPB; Tolerance: NA; Customs_HS_Code: 85369090; Custom_Duty: 24%; MECHANICAL 3D STEP FILE: CON_SD9_1939870-1_S_R_S_3-4; PCB Footprint: CON_SD9_1939870-1_S_R_S_2-9; Library Ref: CON_SDCARD9_1939870-1; Mfr_part_number: 1939870-1; Voltage: NA; Wattage: NA; Package: SMD; Distributor_name: DIGIKEY; Distributor_part_number: A118090CT-ND; Height: 2.90MM; Weight: NA; Temperature: NA; Datasheet: Y:\MIS_DATABASE\DATASHEETS\CONNECTORS\1939870-XX.PDF; Crtd /date: MANIRAJA/051017; Chkd/date: MANIRAJA/051017
footprint CON_SD9_1939870-1_S_R_S_2-9
pins: 1 CD/DAT3 (io), 2 CMD, 3 VSS1 (power), 4 VDD (power), 5 CLK, 6 VSS2 (power), 7 DAT0 (io), 8 DAT1 (io), 9 DAT2 (io), G1, G2, G3, G4, G5

## CON_USB_MINI-AB_10
designator J?, comment CON_MUSB-AB_5_F
CON MICRO USB-AB TYPE 5POS FEMALE RT SMD; Part_type: CONNECTOR\USB; Mfr_part_number: 475900001; Mfr_name: MOLEX; Mistral Part No: 150009090024-R; MECHANICAL 3D STEP FILE: CON_USBAB5_475900001_S_R_S_3-1; Custom_Duty: 24%; Customs_HS_Code: 85369090; Wattage: NA; Project: GOLDEN-I; RoHS: NA; Chkd/date: VASANTHA/060117; Crtd /date: MAZHAR/290909; Datasheet: Y:\MIS_DATABASE\DATASHEETS\CONNECTORS\475900.PDF; Temperature: -30°C+85°C; Weight: NA; Height: 3.10MM; Distributor_part_number: WM17144CT-ND; Distributor_name: DIGIKEY; Package: SMD; Voltage: NA; Tolerance: NA; PCB Footprint: CON_USBAB5_475900001_S_R_S_3-1; Library Ref: CON_USB_MINI-AB_10
footprint CON_USBAB5_475900001_S_R_S_3-1
pins: 1 VCC (power), 2 D- (io), 3 D+ (io), 4 ID, 5 GND (power), 6 SH1 (power), 7 SH2 (power), 8 SH3 (power), 9 SH4 (power), 10 SH5 (power)

## CRY
designator Y?, comment 32.768KHz
CRY 32.768KHz 12.5pF SMD; Mistral Part No: 130009030082-R; Mfr_name: ABRACON; Mfr_part_number: ABS07-32.768KHZ-T; Part_type: CRYSTAL; Project: SMART VIEW_IP CAMERA; Tolerance: NA; Customs_HS_Code: 85439000; Custom_Duty: 24%; MECHANICAL 3D STEP FILE: XTAL_ABS07_130X60_SMD_0-9; Library Ref: CRY; Voltage: NA; Wattage: NA; Package: SMD; Distributor_name: DIGIKEY; Distributor_part_number: 535-9542-1-ND; Height: 0.90MM; Weight: 16mg; Temperature: -40°C+85°C; Datasheet: Y:\MIS_DATABASE\DATASHEETS\MISC\CRY_OSC\ABS07.PDF; Crtd /date: MAZHAR/250907; Chkd/date: VASANTHA/050117; PCB Footprint: XTAL_ABS07_130X60_SMD_0-9
footprint XTAL_ABS07_130X60_SMD_0-9
pins: 1, 2

## CRY4_13
designator Y?, comment 24.576MHz
CRY 24.576MHz 18pF SMD; Mistral Part No: 130018010021-R; Mfr_name: TXC CORPORATION; Mfr_part_number: 7M-24.576MAAJ-T; Part_type: CRYSTAL; PCB Footprint: XTAL4_TXC_130X100_SMD_0-8; Project: TI_MAXIE_CPB; Tolerance: NA; Customs_HS_Code: 85439000; Custom_Duty: 24%; Library Ref: CRY4_13; Voltage: NA; Wattage: NA; Package: SMD; Distributor_name: DIGIKEY; Distributor_part_number: 887-2373-1-ND; Height: 0.80MM; Weight: 16mg; Temperature: -20°C+70°C; Datasheet: Y:\MIS_DATABASE\DATASHEETS\MISC\CRY_OSC\7M-SER.PDF; Crtd /date: MANIRAJA/240118; Chkd/date: MANIRAJA/240118; MECHANICAL 3D STEP FILE: XTAL4_TXC_130X100_SMD_0-8
footprint XTAL4_TXC_130X100_SMD_0-8
pins: 1, 2, 3, 4

## CRY4_13_1
designator Y?, comment 16.000MHZ
CRY 16.000MHz SMD; Mistral Part No: 130017080024-R; Mfr_name: NDK; Mfr_part_number: NX3225GA-16.000M-STD-CRG-1; Part_type: CRYSTAL; PCB Footprint: XTAL4_NX3225GA_130X100_SMD_0-9; Project: TI_MAXIE_CPB; Tolerance: NA; Customs_HS_Code: 85439000; Custom_Duty: 24%; Voltage: NA; Wattage: NA; Package: SMD; Distributor_name: DIGIKEY; Distributor_part_number: 644-1157-1-ND; Height: 0.90MM; Weight: NA; Temperature: -40°C+85°C; Datasheet: Y:\MIS_DATABASE\DATASHEETS\MISC\CRY_OSC\NX3225GA.PDF; Crtd /date: MANIRAJA/230817; Chkd/date: MANIRAJA/230817; MECHANICAL 3D STEP FILE: XTAL4_NX3225GA_130X100_SMD_0-9; Library Ref: CRY4_13
footprint XTAL4_NX3225GA_130X100_SMD_0-9
pins: 1, 2, 3, 4

## CRY_1
designator Y?, comment 25MHz
CRY 25MHz SMD; Mistral Part No: 130011100003-R; Mfr_name: ABRACON; Mfr_part_number: ABM3-25.000MHZ-D2Y-T; Part_type: CRYSTAL; Project: VP-4000-PROCESSOR; Tolerance: NA; Customs_HS_Code: 85439000; Custom_Duty: 24%; PCB Footprint: XTAL_ABM3_210X130_SMD; Library Ref: CRY; Voltage: NA; Wattage: NA; Package: SMD; Distributor_name: DIGIKEY; Distributor_part_number: 535-10645-1-ND; Height: 1.50MM; Weight: NA; Temperature: -40°C+85°C; Datasheet: Y:\MIS_DATABASE\DATASHEETS\MISC\CRY_OSC\ABM3.PDF; Crtd /date: CHAITHANYA/041011; Chkd/date: BAVISH/041011
footprint XTAL_ABM3_210X130_SMD
pins: 1, 2

## CRY_2
designator Y?, comment 12.000MHz
CRY 12MHz SMD; Part_type: CRYSTAL; Mfr_part_number: ABM3-12.000MHZ-D2Y-T; Mfr_name: ABRACON; Mistral Part No: 130016020045-R; PCB Footprint: XTAL_ABM3_205X130_SMD; Custom_Duty: 24%; Customs_HS_Code: 85439000; Wattage: NA; Project: AMBISCOPE; Chkd/date: VASANTHA/140316; Crtd /date: JEBRAN/240216; Datasheet: Y:\MIS_DATABASE\DATASHEETS\MISC\CRY_OSC\ABM3.PDF; Temperature: -40°C+85°C; Weight: NA; Height: 1.50MM; Distributor_part_number: 535-10634-1-ND; Distributor_name: DIGIKEY; Package: SMD; Voltage: NA; Tolerance: NA; Library Ref: CRY
footprint XTAL_ABM3_205X130_SMD
pins: 1, 2

## DIODE
designator D?, comment S1G-13-F
DIODE RECTIFIER 400V 1A SMA; Mistral Part No: 130009030153; Mfr_name: DIODES INC; Part_type: DIODE\RECTIFIER; Project: CPB; Customs_HS_Code: 85412900; Custom_Duty: 15%; PCB Footprint: DIO_SMA; Library Ref: DIODE; Mfr_part_number: S1G-13-F; Voltage: 400V; Package: SMA; Distributor_name: DIGIKEY; Distributor_part_number: S1G-FDICT-ND; Height: 2.30MM; Weight: 0.0064g; Temperature: -65°C+150°C; Datasheet: Y:\MIS_DATABASE\DATASHEETS\DISCRETES\DIODES\S1.PDF; Crtd /date: USMAN/220808; Chkd/date: SUHAS/061010
footprint DIO_SMA
pins: 1 K, 2 A

## DIODE_LED
designator LD?, comment LP L296-J2L2-25
LED PURE GREEN 0603; Mistral Part No: 130017080025-R; Mfr_name: OSRAM; Mfr_part_number: LP L296-J2L2-25-Z; Part_type: OPTO\LED; Project: TI_MAXIE_CPB; Tolerance: NA; Customs_HS_Code: 85437099; Custom_Duty: 24%; MECHANICAL 3D STEP FILE: LED_0603_0-7; Voltage: NA; Wattage: NA; Package: 0603; Distributor_name: DIGIKEY; Distributor_part_number: 475-2920-1-ND; Height: 0.67MM; Weight: 2mg; Temperature: -40°C+100°C; Datasheet: Y:\MIS_DATABASE\DATASHEETS\DISCRETES\LEDS\LPL296-J2L2-25.PDF; Crtd /date: MANIRAJA/230817; Chkd/date: MANIRAJA/230817; PCB Footprint: LED_0603_0-7; Footprint Path: Y:\MIS_DATABASE\Library\ALTIUM_TOOL\PCB_FOOTPRINTS\Altium_Footprint_Lib.PcbLib; Library Ref: DIODE_LED
footprint LED_0603_0-7
pins: 1 CATHODE, 2 ANODE

## DIODE_LED_1
designator LD?, comment LS Q976-NR-1
LED SUPER RED 0603; Part_type: OPTO\LED; Mfr_name: OSRAM; Mistral Part No: 130018020039-R; MECHANICAL 3D STEP FILE: LED_0603_0-8; Custom_Duty: 24%; Customs_HS_Code: 85437099; Wattage: NA; Project: TI_MAXIE_CPB; Chkd/date: MANIRAJA/150218; Crtd /date: ALVY/150218; Datasheet: Y:\MIS_DATABASE\DATASHEETS\DISCRETES\LEDS\LSQ976-NR-1.PDF; Temperature: -30°C+85°C; Weight: 1.4mg; Height: 0.80MM; Distributor_part_number: 475-2512-1-ND; Distributor_name: DIGIKEY; Package: 0603; Voltage: NA; Tolerance: NA; Mfr_part_number: LS Q976-NR-1; PCB Footprint: LED_0603_0-8; Library Path: Y:\MIS_DATABASE\Library\ALTIUM_TOOL\SCHEMATICS_PARTS\MS_OPTO_Library.schlib; Footprint Path: Y:\MIS_DATABASE\Library\ALTIUM_TOOL\PCB_FOOTPRINTS\Altium_Footprint_Lib.PcbLib; Library Ref: DIODE_LED; Footprint Ref: LED_0603_0-8
footprint LED_0603_0-8
pins: 1 CATHODE, 2 ANODE

## DIODE_LED_2
designator LD?, comment SML-P11MTT86
DIODE LED GREEN 0402; Mistral Part No: 130010060029-R; Mfr_name: ROHM; Part_type: OPTO\LED; PCB Footprint: LED_0402_0-3; Wattage: NA; Project: XMC660; Customs_HS_Code: 85439000; Custom_Duty: 24%; Footprint Path: Y:\MIS_DATABASE\Library\ALTIUM_TOOL\PCB_FOOTPRINTS\Altium_Footprint_Lib.PcbLib; Library Path: Y:\MIS_DATABASE\Library\ALTIUM_TOOL\SCHEMATICS_PARTS\MS_DISCRETE_Library.schlib; MECHANICAL 3D STEP FILE: LED_0402_0-3; Voltage: NA; Tolerance: NA; Mfr_part_number: SML-P11MTT86; Package: 0402; Distributor_name: DIGIKEY; Distributor_part_number: 511-1652-1-ND; Height: 0.25MM; Weight: NA; Temperature: -40°C+85°C; Datasheet: Y:\MIS_DATABASE\DATASHEETS\DISCRETES\LEDS\SML-P11.PDF; Crtd /date: MUDDU/190610; Chkd/date: VASANTHA/281216; Library Ref: DIODE_LED
footprint LED_0402_0-3
pins: 1 CATHODE, 2 ANODE

## DIODE_PESD
designator D?, comment TPD1E10B06DPY
DIODE 1CH ESD PROTECTION SMD(0402); Mistral Part No: 130014110022-R; Mfr_name: TEXAS INSTRUMENTS; Part_type: DIODE\MISC; Project: GALILEO_EVM; Tolerance: NA; Customs_HS_Code: 85423100; Custom_Duty: 15%; PCB Footprint: DIO_DFN0402; Library Ref: DIODE_PESD; Mfr_part_number: TPD1E10B06DPY; Voltage: NA; Wattage: NA; Package: SMD; Distributor_name: DIGIKEY; Distributor_part_number: 296-30406-1-ND; Height: 0.45MM; Weight: NA; Temperature: -40°C+125°C; Datasheet: Y:\MIS_DATABASE\DATASHEETS\ICS\INTERFACE\TPD1E10B06.PDF; Crtd /date: VASANTHA/181114; Chkd/date: USMAN/021214
footprint DIO_DFN0402
pins: 1 K, 2 A

## DIODE_SCHOTTKY
designator D?, comment SSB44-E3/52T
DIODE SCHOTTKY RECTIFIER 40V 4A DO-214AA(SMB); Mistral Part No: 130017100021-R; Mfr_name: VISHAY; Part_type: DIODE\SCHOTTKY; MECHANICAL 3D STEP FILE: DIO_SMB_2-5; Project: TI_MAXIE_CPB; Tolerance: NA; Customs_HS_Code: 85412900; Custom_Duty: 15%; PCB Footprint: DIO_SMB_2-5; Mfr_part_number: SSB44-E3/52T; Voltage: NA; Wattage: NA; Package: DO-214AA; Distributor_name: DIGIKEY; Distributor_part_number: SSB44-E3/52TGICT-ND; Height: 2.44MM; Weight: 180mg; Temperature: -65°C+150°C; Datasheet: Y:\MIS_DATABASE\DATASHEETS\DISCRETES\DIODES\SSB4XX.PDF; Crtd /date: MANIRAJA/171017; Chkd/date: MANIRAJA/171017; Library Ref: DIODE_SCHOTTKY
footprint DIO_SMB_2-5
pins: 1 CATHODE, 2 ANODE

## DIODE_SCHOTTKY_1
designator D?, comment XBS104S13R
DIODE SCHOTTKY 40V 1A SOD323A; Part_type: DIODE\SCHOTTKY; Mfr_part_number: XBS104S13R-G; Mfr_name: TOREX; Mistral Part No: 130018020038-R; MECHANICAL 3D STEP FILE: DIO_SOD323_1; Custom_Duty: 24%; Customs_HS_Code: 85437099; Wattage: NA; Project: TI_MAXIE_CPB; Chkd/date: MANIRAJA/150218; Crtd /date: ALVY/150218; Datasheet: Y:\MIS_DATABASE\DATASHEETS\DISCRETES\DIODES\XBS104S13R-G.PDF; Temperature: NA; Weight: NA; Height: 1.00MM; Distributor_part_number: 893-1188-1-ND; Distributor_name: DIGIKEY; Package: SOD323; Voltage: 40V; Tolerance: NA; PCB Footprint: DIO_SOD323_1; Library Path: Y:\MIS_DATABASE\Library\ALTIUM_TOOL\SCHEMATICS_PARTS\MS_DISCRETE_Library.schlib; Footprint Path: Y:\MIS_DATABASE\Library\ALTIUM_TOOL\PCB_FOOTPRINTS\Altium_Footprint_Lib.PcbLib; Library Ref: DIODE_SCHOTTKY; Footprint Ref: DIO_SOD323_1
footprint DIO_SOD323_1
pins: 1 CATHODE, 2 ANODE

## DIODE_SCHOTTKY_2
designator D?, comment SK1545-TP
DIODE SCHOTTKY RECTIFIER 45V 15A DO-214AB; Mistral Part No: 130017100014-R; Mfr_name: MCC; Part_type: DIODE\SCHOTTKY; Project: TI_MAXIE_CPB; Tolerance: NA; Customs_HS_Code: 85412900; Custom_Duty: 15%; MECHANICAL 3D STEP FILE: DO-214AB_5-6; Library Ref: DIODE_SCHOTTKY; Mfr_part_number: SK1545-TP; Voltage: NA; Wattage: NA; Package: DO-214AB; Distributor_name: DIGIKEY; Distributor_part_number: SK1545-TPCT-ND; Height: 5.56MM; Weight: 34mg; Temperature: -55°C+125°C; Datasheet: Y:\MIS_DATABASE\DATASHEETS\DISCRETES\DIODES\SK15XX.PDF; Crtd /date: MANIRAJA/121017; Chkd/date: MANIRAJA/121017; PCB Footprint: DO-214AB_5-6
footprint DO-214AB_5-6
pins: 1 CATHODE, 2 ANODE

## DIODE_TVS_DUAL
designator D?, comment SMCJ64CA
DIODE TVS BI-DIE 1500W 64V SMC; Mistral Part No: 130015100009-R; Mfr_name: LITTLE FUSE; Part_type: DIODE\TVS; Project: GALILEO_EVM; Tolerance: NA; Customs_HS_Code: 85412900; Custom_Duty: 15%; PCB Footprint: DIO_SMC; Library Ref: DIODE_TVS_DUAL; Mfr_part_number: SMCJ64CA; Voltage: 64V; Wattage: NA; Package: SMC; Distributor_name: DIGIKEY; Distributor_part_number: SMCJ64CALFCT-ND; Height: 2.62MM; Weight: NA; Temperature: -55°C+150°C; Datasheet: Y:\MIS_DATABASE\DATASHEETS\DISCRETES\DIODES\LTFUSE-SMCJ.PDF; Crtd /date: VASANTHA/101015; Chkd/date: VASANTHA/101015
footprint DIO_SMC
pins: 1 CATHODE, 2 ANODE

## DIODE_ZENER
designator D?, comment BZT52C13S
DIODE ZENER 13V 200mW SOD323; Mistral Part No: 130010120013-R; Mfr_name: DIODES INC; Mfr_part_number: BZT52C13S-7-F; Part_type: DIODE\ZENER; Project: IEMS; Tolerance: NA; Customs_HS_Code: 85412900; Custom_Duty: 15%; PCB Footprint: DIO_SOD323; Library Ref: DIODE_ZENER; Voltage: NA; Wattage: 200mW; Package: SOD323; Distributor_name: DIGIKEY; Distributor_part_number: BZT52C13S-FDICT-ND; Height: 1.05MM; Weight: 0.004g; Temperature: -65°C+150°C; Datasheet: Y:\MIS_DATABASE\DATASHEETS\DISCRETES\DIODES\BZT52C.PDF; Crtd /date: BAVISH/101210; Chkd/date: MAZHAR/101210
footprint DIO_SOD323
pins: 1 CATHODE, 2 ANODE

## DIODE_ZENER_SOT23_13
designator D?, comment BZX84C6V8LT1G
DIODE ZENER 250mW 6.8V SOT23-123; Mistral Part No: 130017100002-R; Mfr_name: ON SEMICONDUCTOR; Part_type: DIODE\ZENER; Project: TI_MAXIE_CPB; Tolerance: NA; Customs_HS_Code: 85412900; Custom_Duty: 15%; MECHANICAL 3D STEP FILE: SOT23-123_1-2; Mfr_part_number: BZX84C6V8LT1G; Voltage: 6.8V; Wattage: NA; Package: SOT23-123; Distributor_name: DIGIKEY; Distributor_part_number: BZX84C6V8LT1GOSCT-ND; Height: 1.11MM; Weight: 8mg; Temperature: -65°C+150°C; Datasheet: Y:\MIS_DATABASE\DATASHEETS\DISCRETES\DIODES\BZX84XX.PDF; Crtd /date: MANIRAJA/031017; Chkd/date: MANIRAJA/031017; PCB Footprint: SOT23-123_1-2; Library Ref: DIODE_ZENER_SOT23_13
footprint SOT23-123_1-2
pins: 1 A, 2 NC, 3 C

## DP83867IRRGZ_VQFN48
designator U?, comment DP83867IRRGZ
IC HIGH IMMUNITY 10/100/1000 Mb/s ETHERNET PHY LAYER TRANSCEIVER VQFN48; Part_type: ICS\TELECOM\TRANSCEIVER; Mfr_name: TEXAS INSTRUMENTS; Mistral Part No: 143017080002-R; PCB Footprint: QFN48_19-68_280X280_1; Custom_Duty: 15%; Customs_HS_Code: 85423100; Wattage: NA; Project: TI_SVB_CONTROLLER CARD; Library Ref: DP83867IRRGZ_VQFN48; MECHANICAL 3D STEP FILE: QFN48_19-68_280X280_1; Chkd/date: MANIRAJA/110817; Crtd /date: MANIRAJA/110817; Datasheet: Y:\MIS_DATABASE\DATASHEETS\ICS\DIGITAL\BUSTRANSCEIVER\DP83867I.PDF; Temperature: -40°C+85°C; Weight: NA; Height: 1.00MM; Distributor_part_number: DP83867IRRGZT-ND; Distributor_name: DIGIKEY; Package: VQFN48; Voltage: NA; Tolerance: NA; Mfr_part_number: DP83867IRRGZ
footprint QFN48_19-68_280X280_1
pins: 1 TD_P_A, 2 TD_M_A, 3 VDDA2P5 (power), 4 TD_P_B, 5 TD_M_B, 6 VDD1P0 (power), 7 TD_P_C, 8 TD_M_C, 9 VDDA2P5 (power), 10 TD_P_D, 11 TD_M_D, 12 RBIAS, 13 VDDA1P8 (power), 14 XO (out), 15 XI (in), 16 MDC, 17 MDIO (io), 18 CLK_OUT (out), 19 VDDIO (power), 20 JTAG_CLK (in), 21 JTAG_TDO (out), 22 JTAG_TMS (io), 23 JTAG_TDI (in), 24 VDD1P0 (power), 25 TX_D3, 26 TX_D2, 27 TX_D1, 28 TX_D0, 29 GTX_CLK, 30 VDDIO (power), 31 VDD1P0 (power), 32 RX_CLK, 33 RX_D0, 34 RX_D1, 35 RX_D2, 36 RX_D3, 37 TX_EN/TX_CTRL, 38 RX_DV/RX_CTRL, 39 GPIO_0 (io), 40 GPIO_1 (io), 41 VDDIO (power), 42 VDD1P0 (power), 43 RESET_N, 44 INT/PWDN, 45 LED_2, 46 LED_1, 47 LED_0, 48 VDDA1P8 (power), 49 GND (power)

## EMI_FILTER
designator FL?, comment 4.7uF
PASSIVE FILTER EMI 4.7uF 0805-3; Part_type: MISC\FILTER; Mfr_part_number: NFM21PC475B1A3; Mfr_name: MURATA; Mistral Part No: 130009060011; MECHANICAL 3D STEP FILE: EMIFIL_NFM21P_0805_1; Custom_Duty: 24%; Customs_HS_Code: 85437099; Wattage: NA; Project: AXON; Chkd/date: VASANTHA/191216; Crtd /date: USMAN/200409; Datasheet: Y:\MIS_DATABASE\DATASHEETS\DISCRETES\INDUCTORS\NFM21P.PDF; Temperature: -40°C+85°C; Weight: NA; Height: 0.95MM; Distributor_part_number: NA; Distributor_name: NA; Package: 0805; Voltage: NA; Tolerance: NA; PCB Footprint: EMIFIL_NFM21P_0805_1; Library Ref: EMI_FILTER
footprint EMIFIL_NFM21P_0805_1
pins: 1 I, 2 GND (power), 3 O

## EMIFILTER_ACM
designator FL?, comment 90E
PASSIVE FILTER COMMON MODE 90E 400mA SMD; Mfr_part_number: ACM2012-900-2P-T002; Mfr_name: TDK CORPORATION; Mistral Part No: 130009030803-R; Custom_Duty: 24%; Customs_HS_Code: 85437099; Project: SMART VIEW_NVR; Tolerance: NA; PCB Footprint: IND4_ACM2012_90X50_SMD_1-3; Chkd/date: MANIRAJA/130218; Crtd /date: MAZHAR/270907; Datasheet: Y:\MIS_DATABASE\DATASHEETS\ICS\MISC\ACM2012-SER.PDF; Height: 1.30MM; Distributor_part_number: 445-2207-1-ND; Distributor_name: DIGIKEY; Package: SMD; Part_type: FILTER; Voltage: NA; Wattage: NA; Library Ref: EMIFILTER_ACM; Weight: 5.5mg; Temperature: -40°C+85°C; MECHANICAL 3D STEP FILE: IND4_ACM2012_90X50_SMD_1-3
footprint IND4_ACM2012_90X50_SMD_1-3
pins: 1, 2, 3, 4

## EMIFILTER_IND
designator FL?, comment 120E
FERRITE BEAD 120E 2A 0603; Part_type: MISC\FILTER; Mfr_part_number: BLM18EG121SN1D; Mfr_name: MURATA; Mistral Part No: 130010060030-R; PCB Footprint: EMIFIL_BLM18R_0603_1; Custom_Duty: 24%; Customs_HS_Code: 85437099; Wattage: NA; Project: CENTAURUS; Footprint Path: Y:\MIS_DATABASE\Library\ALTIUM_TOOL\PCB_FOOTPRINTS\Altium_Footprint_Lib.PcbLib; Library Path: Y:\MIS_DATABASE\Library\ALTIUM_TOOL\SCHEMATICS_PARTS\MS_FILTER_Library.schlib; MECHANICAL 3D STEP FILE: EMIFIL_BLM18R_0603_1; Chkd/date: VASANTHA/061216; Crtd /date: MUDDU/190610; Datasheet: Y:\MIS_DATABASE\DATASHEETS\DISCRETES\INDUCTORS\BLM18E.PDF; Temperature: -55°C+125°C; Weight: NA; Height: 0.95MM; Footprint Ref: EMIFIL_BLM18R_0603_1; Library Ref: EMIFILTER_IND; Distributor_part_number: 490-3991-1-ND; Distributor_name: DIGIKEY; Package: 0603; Voltage: NA; Tolerance: NA
footprint EMIFIL_BLM18R_0603_1
pins: 1, 2

## EMIFILTER_IND_1
designator FL?, comment 26E
FERRITE CHIP 26E 6A 0603; Part_type: MISC\FILTER; Mfr_part_number: BLM18KG260TN1D; Mfr_name: MURATA; Mistral Part No: 130012010003-R; PCB Footprint: EMIFIL_BLM18K_0603; Custom_Duty: 24%; Customs_HS_Code: 85437099; Wattage: NA; Project: NA10NG; Chkd/date: USMAN/020112; Crtd /date: CHAITHANYA/020112; Datasheet: Y:\MIS_DATABASE\DATASHEETS\DISCRETES\INDUCTORS\BLM18K-SERIES.PDF; Temperature: -55°C+125°C; Weight: NA; Height: 0.75MM; Library Ref: EMIFILTER_IND; Distributor_part_number: 490-5252-1-ND; Distributor_name: DIGIKEY; Package: 0603; Voltage: NA; Tolerance: NA
footprint EMIFIL_BLM18K_0603
pins: 1, 2

## EMIFILTER_IND_2
designator FL?, comment 240E
FERRITE CHIP 240E 350mA 0201; Mistral Part No: 130014070021-R; Mfr_name: MURATA; Mfr_part_number: BLM03AX241SN1D; Part_type: MISC\FILTER; PCB Footprint: EMIFIL_BLM03B_0201; Project: HUMANWARE_PHOENIX; Tolerance: NA; Customs_HS_Code: 85437099; Custom_Duty: 24%; Library Ref: EMIFILTER_IND; Voltage: NA; Wattage: NA; Package: 0201; Distributor_name: DIGIKEY; Distributor_part_number: 490-5623-1-ND; Height: 0.33MM; Weight: NA; Temperature: -55°C+125°C; Datasheet: Y:\MIS_DATABASE\DATASHEETS\DISCRETES\INDUCTORS\BLM03AX.PDF; Crtd /date: NAVEED/140714; Chkd/date: VASANTHA/070814
footprint EMIFIL_BLM03B_0201
pins: 1, 2

## EMIFILTER_IND_3
designator FL?, comment 120E
FERRITE CHIP 120E 1.3A 0402; Mistral Part No: 130012030043-R; Mfr_name: MURATA; Mfr_part_number: BLM15PD121SN1; Part_type: MISC\FILTER; Project: GEN_3-8; Tolerance: 25%; Voltage: NA; Customs_HS_Code: 85437099; Custom_Duty: 24%; MECHANICAL 3D STEP FILE: EMIFIL_BLM15A_0402_0-6; Footprint Path: Y:\MIS_DATABASE\Library\ALTIUM_TOOL\PCB_FOOTPRINTS\Altium_Footprint_Lib.PcbLib; Library Path: Y:\MIS_DATABASE\Library\ALTIUM_TOOL\SCHEMATICS_PARTS\MS_FILTER_Library.schlib; Footprint Ref: EMIFIL_BLM15A_0402_0-6; Library Ref: EMIFILTER_IND; Wattage: NA; Package: 0402; Distributor_name: DIGIKEY; Distributor_part_number: 490-5203-1-ND; Height: 0.55MM; Weight: 0.65mg; Temperature: -55°C+125°C; Datasheet: Y:\MIS_DATABASE\DATASHEETS\DISCRETES\INDUCTORS\BLM18K-SERIES.PDF; Crtd /date: CHAITHANYA/150312; Chkd/date: VASANTHA/010117; PCB Footprint: EMIFIL_BLM15A_0402_0-6
footprint EMIFIL_BLM15A_0402_0-6
pins: 1, 2

## EMIFILTER_IND_4
designator FL?, comment 220E
FERRITE CHIP 220E 0.3A 0402; Mistral Part No: 130013100020-R; Mfr_name: MURATA; Mfr_part_number: BLM15GG221SN1D; Part_type: MISC\FILTER; PCB Footprint: EMIFIL_BLM15A_0402; Project: C-BAND_SYNTH; Tolerance: 25%; Voltage: NA; Customs_HS_Code: 85412900; Custom_Duty: 15%; Wattage: NA; Package: 0402; Distributor_name: DIGIKEY; Distributor_part_number: 490-5197-1-ND; Height: 0.55MM; Weight: NA; Temperature: -55°C+125°C; Datasheet: Y:\MIS_DATABASE\DATASHEETS\DISCRETES\INDUCTORS\BLM18K-SERIES.PDF; Crtd /date: USMAN/151013; Chkd/date: VASANTHA/270715; Library Ref: EMIFILTER_IND
footprint EMIFIL_BLM15A_0402
pins: 1, 2

## FCC_disclaimer
designator Logo?, comment For Evaluation only; not FCC approved for resale
PCB Footprint: FCC_disclaimer
footprint FCC_disclaimer
text: PCB; LOGO

## Fiducial
designator FID?, comment FID_40X80
PCB Footprint: FID_40X80
footprint Fiducial10-20
footprint FID_40X80

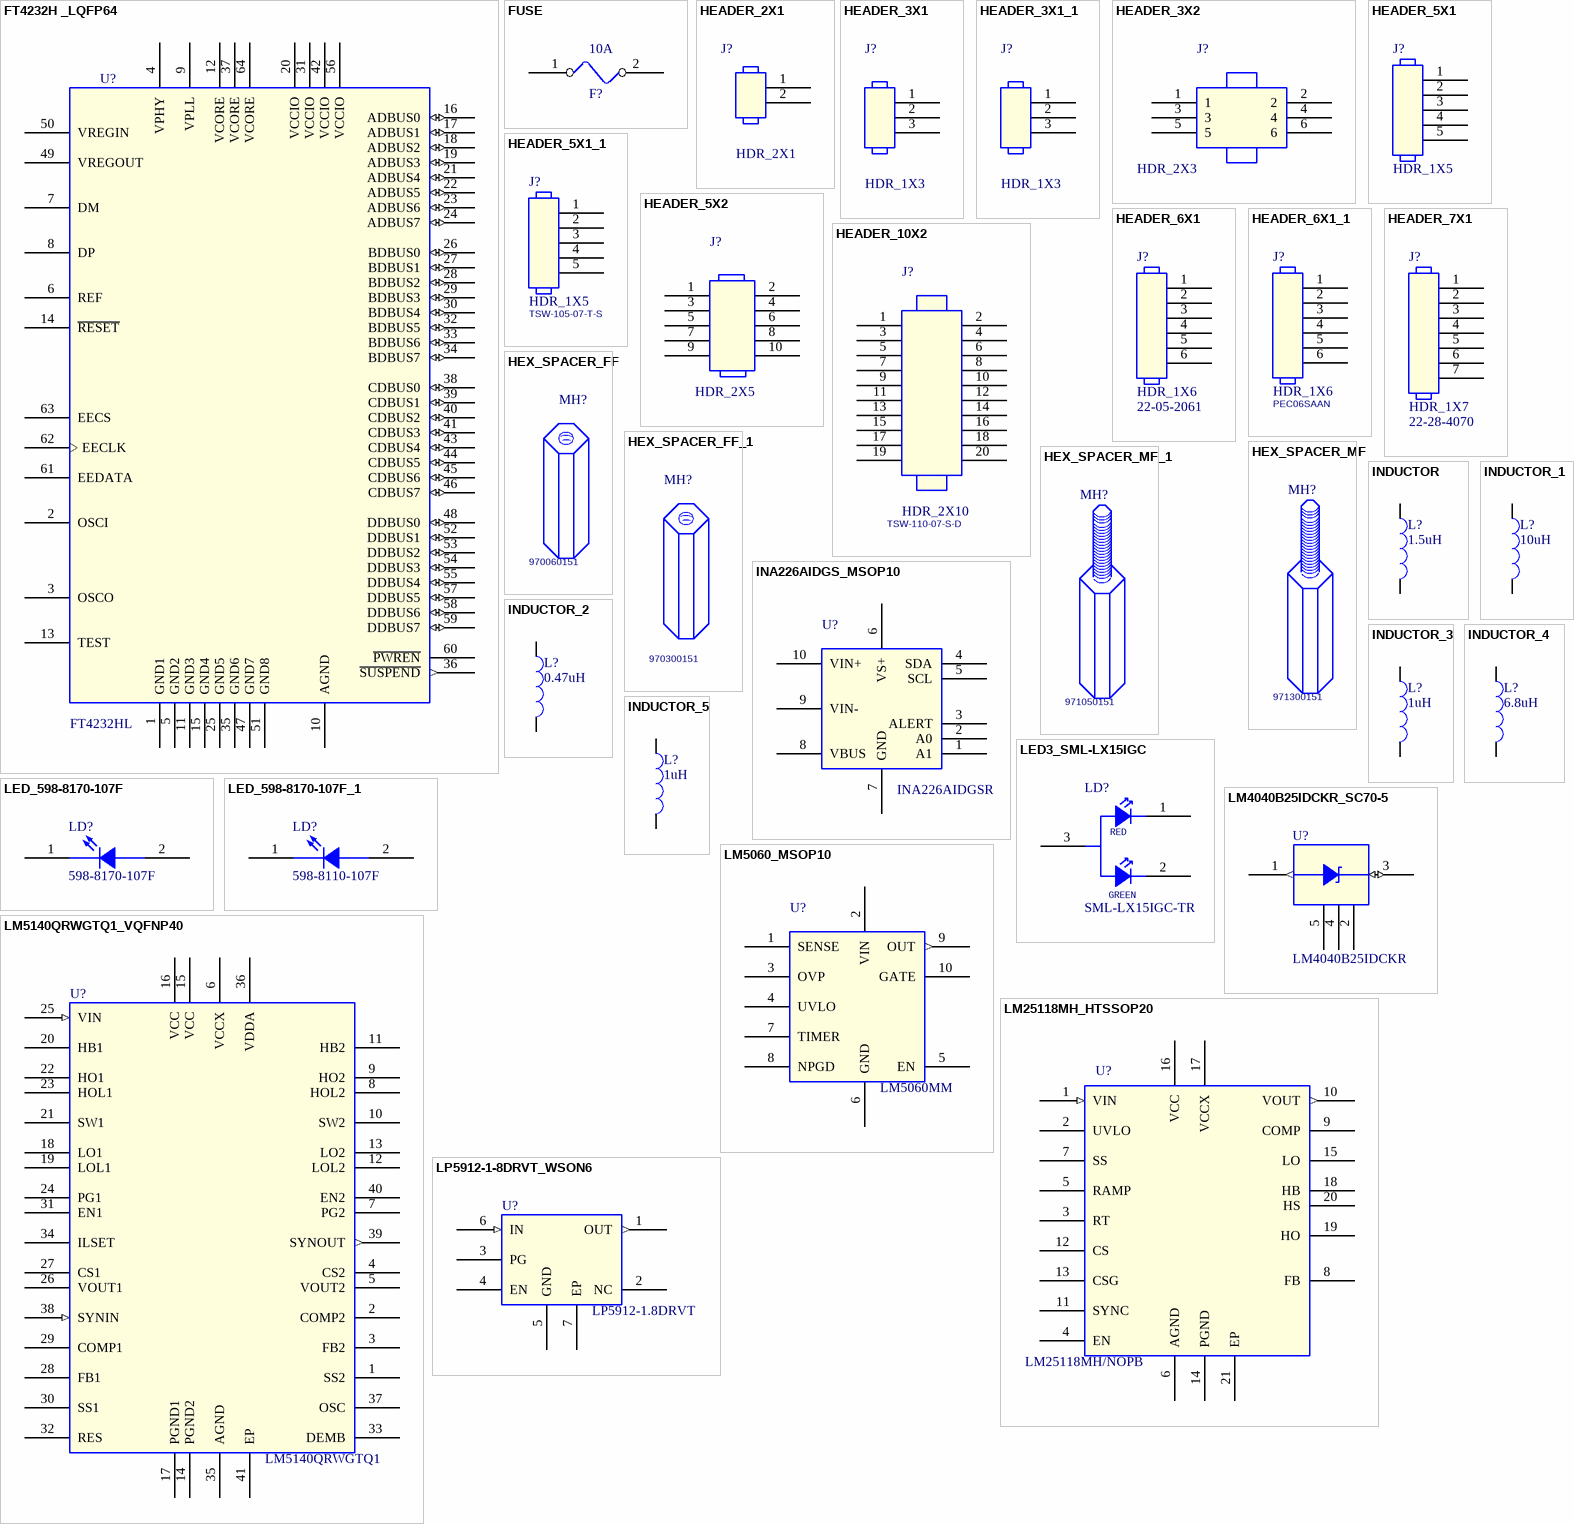
[diagram p8: symbols FT4232H _LQFP64 to LP5912-1-8DRVT_WSON6]